# Altium schematic symbol library Library.SchLib: 691 symbols (part 9 of 11)
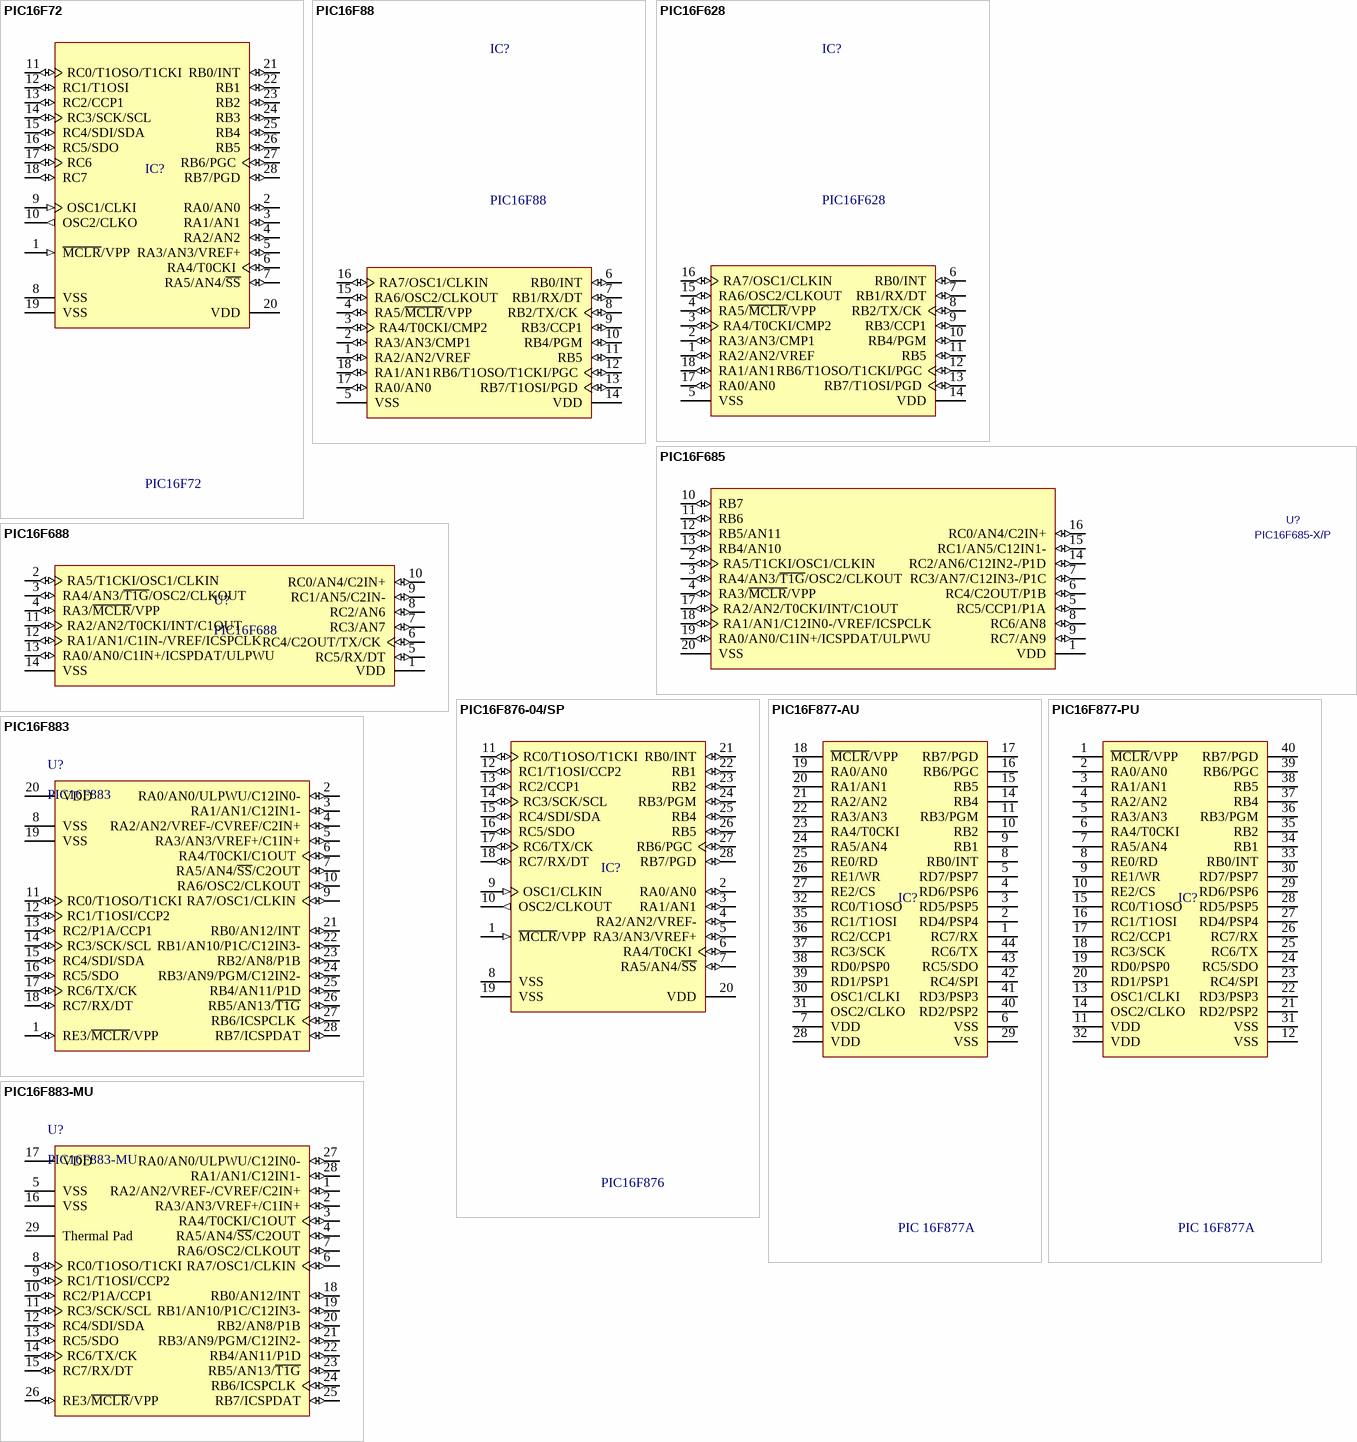
[diagram p54: symbols PIC16F72 to PIC16F883-MU]

## PIC16F883
designator U?
Flash-Based, 8-Bit CMOS Microcontroller with nanoWatt Technology, 4K (x14-Bit words) Program Memory, 512 Bytes Data Memory, 24 I/O pins, 28-Pin SOIC, Standard VDD Range, Extended Temperature; Published: 29-Jan-2009; LatestRevisionDate: 02-Dec-2009; LatestRevisionNote: Updated datasheet to version revF, Apr-2009.; DatasheetVersion: revF, Apr-2009; PackageVersion: revBB, Aug-2009; PackageReference: SOIC-SO28; Publisher: Altium Limited; PackageDescription: 28-Lead Plastic Small Outline (SO) - Wide 7.50mm Body [SOIC]; Supplier 1: Digi-Key; Supplier Part Number 1: PIC16F883-E/SO-ND; Code_JEDEC: MS-013; ComponentLink1Description: Datasheet; ComponentLink1URL: http://ww1.microchip.com/downloads/en/DeviceDoc/41291F.pdf; ComponentLink2Description: Packaging Specification; ComponentLink2URL: http://www.microchip.com/stellent/groups/techpub_sg/documents/packagingspec/en012702.pdf; ComponentLink3Description: Microchip.com Home; ComponentLink3URL: http://www.microchip.com/
footprint DIP28 (DIP, 18-Leads, Row Spacing 7.62mm, Pitch 2.54mm, Body 22.8x7.3mm, Window)
footprint SO28 (SOIC, 28-Leads, Body 18.00x7.50mm, Pitch 1.27mm, IPC Medium Density)
footprint TSSOP28 (TSSOP, 28-Leads, Body 10.20x5.30mm, Pitch 0.65mm, IPC High Density)
pins: 1 RE3/~{MCLR}/VPP (io), 2 RA0/AN0/ULPWU/C12IN0- (io), 3 RA1/AN1/C12IN1- (io), 4 RA2/AN2/VREF-/CVREF/C2IN+ (io), 5 RA3/AN3/VREF+/C1IN+ (io), 6 RA4/T0CKI/C1OUT (io), 7 RA5/AN4/~{SS}/C2OUT (io), 8 VSS (power), 9 RA7/OSC1/CLKIN (io), 10 RA6/OSC2/CLKOUT (io), 11 RC0/T1OSO/T1CKI (io), 12 RC1/T1OSI/CCP2 (io), 13 RC2/P1A/CCP1 (io), 14 RC3/SCK/SCL (io), 15 RC4/SDI/SDA (io), 16 RC5/SDO (io), 17 RC6/TX/CK (io), 18 RC7/RX/DT (io), 19 VSS (power), 20 VDD (power), 21 RB0/AN12/INT (io), 22 RB1/AN10/P1C/C12IN3- (io), 23 RB2/AN8/P1B (io), 24 RB3/AN9/PGM/C12IN2- (io), 25 RB4/AN11/P1D (io), 26 RB5/AN13/~{T1G} (io), 27 RB6/ICSPCLK (io), 28 RB7/ICSPDAT (io)

## PIC16F883-MU
designator U?
Flash-Based, 8-Bit CMOS Microcontroller with nanoWatt Technology, 4K (x14-Bit words) Program Memory, 512 Bytes Data Memory, 24 I/O pins, 28-Pin QFN, Standard VDD Range, Extended Temperature; Published: 29-Jan-2009; LatestRevisionDate: 02-Dec-2009; LatestRevisionNote: Updated datasheet to version revF, Apr-2009.; DatasheetVersion: revF, Apr-2009; PackageVersion: revBB, Aug-2009; PackageReference: QFN-ML28; Publisher: Altium Limited; PackageDescription: 28-Lead Plastic Quad Flat, No Lead Package (ML) - 6x6 mm Body [QFN] with 0.55 mm Contact Length; Supplier 1: Digi-Key; Supplier Part Number 1: PIC16F883-E/ML-ND; Code_JEDEC: MO-220; Code_IPC: QFN65P600X600-28V; ComponentLink1Description: Datasheet; ComponentLink1URL: http://ww1.microchip.com/downloads/en/DeviceDoc/41291F.pdf; ComponentLink2Description: Packaging Specification; ComponentLink2URL: http://www.microchip.com/stellent/groups/techpub_sg/documents/packagingspec/en012702.pdf; ComponentLink3Description: Microchip.com Home; ComponentLink3URL: http://www.microchip.com/
footprint QFN28 (QFN, 28-Leads, Body 5.75x5.75mm, Pitch 0.65mm, Thermal Pad 3.70x3.70mm, IPC Medium Density)
pins: 1 RA2/AN2/VREF-/CVREF/C2IN+ (io), 2 RA3/AN3/VREF+/C1IN+ (io), 3 RA4/T0CKI/C1OUT (io), 4 RA5/AN4/~{SS}/C2OUT (io), 5 VSS (power), 6 RA7/OSC1/CLKIN (io), 7 RA6/OSC2/CLKOUT (io), 8 RC0/T1OSO/T1CKI (io), 9 RC1/T1OSI/CCP2 (io), 10 RC2/P1A/CCP1 (io), 11 RC3/SCK/SCL (io), 12 RC4/SDI/SDA (io), 13 RC5/SDO (io), 14 RC6/TX/CK (io), 15 RC7/RX/DT (io), 16 VSS (power), 17 VDD (power), 18 RB0/AN12/INT (io), 19 RB1/AN10/P1C/C12IN3- (io), 20 RB2/AN8/P1B (io), 21 RB3/AN9/PGM/C12IN2- (io), 22 RB4/AN11/P1D (io), 23 RB5/AN13/~{T1G} (io), 24 RB6/ICSPCLK (io), 25 RB7/ICSPDAT (io), 26 RE3/~{MCLR}/VPP (io), 27 RA0/AN0/ULPWU/C12IN0- (io), 28 RA1/AN1/C12IN1- (io), 29 Thermal Pad

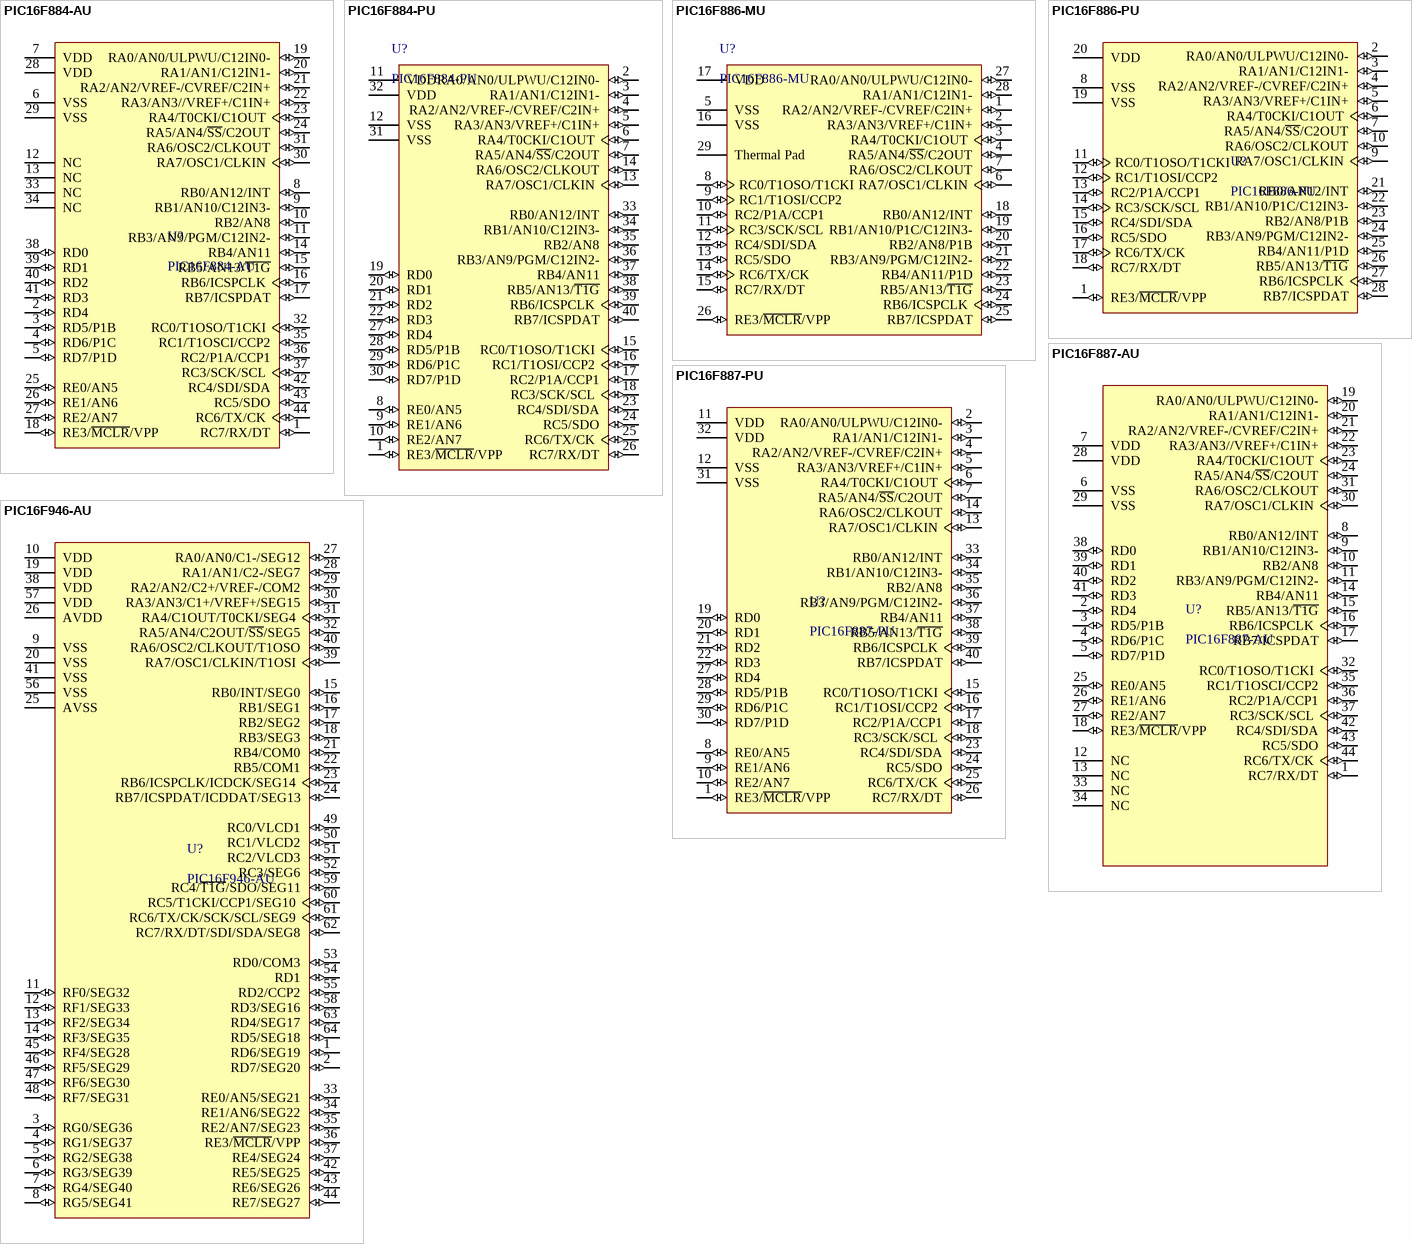
[diagram p37: symbols PIC16F884-AU to PIC16F946-AU]

## PIC16F884-AU
designator U?
Flash-Based, 8-Bit CMOS Microcontroller with nanoWatt Technology, 4K (x14-Bit words) Program Memory, 512 Bytes Data Memory, 35 I/O pins, 44-Pin TQFP, Standard VDD Range, Extended Temperature; Published: 29-Jan-2009; LatestRevisionDate: 02-Dec-2009; LatestRevisionNote: Updated datasheet to version revF, Apr-2009.; DatasheetVersion: revF, Apr-2009; PackageVersion: revBB, Aug-2009; PackageReference: TQFP-PT44; Publisher: Altium Limited; PackageDescription: 44-Lead Plastic Thin Quad Flatpack (PT) - 10x10x1mm Body, 2.00mm [TQFP]; Supplier 1: Digi-Key; Supplier Part Number 1: PIC16F884-E/PT-ND; Code_JEDEC: MS-026; ComponentLink1Description: Datasheet; ComponentLink1URL: http://ww1.microchip.com/downloads/en/DeviceDoc/41291F.pdf; ComponentLink2Description: Packaging Specification; ComponentLink2URL: http://www.microchip.com/stellent/groups/techpub_sg/documents/packagingspec/en012702.pdf; ComponentLink3Description: Microchip.com Home; ComponentLink3URL: http://www.microchip.com/
footprint TQFP44 (TQFP, 44-Leads, Body 10X10mm, Pitch 0.80mm, IPC High Density)
pins: 1 RC7/RX/DT (io), 2 RD4 (io), 3 RD5/P1B (io), 4 RD6/P1C (io), 5 RD7/P1D (io), 6 VSS (power), 7 VDD (power), 8 RB0/AN12/INT (io), 9 RB1/AN10/C12IN3- (io), 10 RB2/AN8 (io), 11 RB3/AN9/PGM/C12IN2- (io), 12 NC, 13 NC, 14 RB4/AN11 (io), 15 RB5/AN13/~{T1G} (io), 16 RB6/ICSPCLK (io), 17 RB7/ICSPDAT (io), 18 RE3/~{MCLR}/VPP (io), 19 RA0/AN0/ULPWU/C12IN0- (io), 20 RA1/AN1/C12IN1- (io), 21 RA2/AN2/VREF-/CVREF/C2IN+ (io), 22 RA3/AN3//VREF+/C1IN+ (io), 23 RA4/T0CKI/C1OUT (io), 24 RA5/AN4/~{SS}/C2OUT (io), 25 RE0/AN5 (io), 26 RE1/AN6 (io), 27 RE2/AN7 (io), 28 VDD (power), 29 VSS (power), 30 RA7/OSC1/CLKIN (io), 31 RA6/OSC2/CLKOUT (io), 32 RC0/T1OSO/T1CKI (io), 33 NC, 34 NC, 35 RC1/T1OSCI/CCP2 (io), 36 RC2/P1A/CCP1 (io), 37 RC3/SCK/SCL (io), 38 RD0 (io), 39 RD1 (io), 40 RD2 (io), 41 RD3 (io), 42 RC4/SDI/SDA (io), 43 RC5/SDO (io), 44 RC6/TX/CK (io)

## PIC16F884-PU
designator U?
Flash-Based, 8-Bit CMOS Microcontroller with nanoWatt Technology, 4K (x14-Bit words) Program Memory, 512 Bytes Data Memory, 35 I/O pins, 40-Pin PDIP, Standard VDD Range, Extended Temperature; Published: 29-Jan-2009; LatestRevisionDate: 02-Dec-2009; LatestRevisionNote: Updated datasheet to version revF, Apr-2009.; DatasheetVersion: revF, Apr-2009; PackageVersion: revBB, Aug-2009; PackageReference: PDIP600-P40; Publisher: Altium Limited; PackageDescription: 40-Lead Plastic Dual In-Line (P) - 600 mil Body [PDIP]; Supplier 1: Digi-Key; Supplier Part Number 1: PIC16F884-E/P-ND; ComponentLink1Description: Datasheet; ComponentLink1URL: http://ww1.microchip.com/downloads/en/DeviceDoc/41291F.pdf; ComponentLink2Description: Packaging Specification; ComponentLink2URL: http://www.microchip.com/stellent/groups/techpub_sg/documents/packagingspec/en012702.pdf; ComponentLink3Description: Microchip.com Home; ComponentLink3URL: http://www.microchip.com/
footprint DIP40_Socket (40 PIN, W 900 mil , L 2600 mil , Push Pro FOR Chip)
footprint DIP40/W0.6 (40 PIN, W 600mil, Pin to pin 100mil)
pins: 1 RE3/~{MCLR}/VPP (io), 2 RA0/AN0/ULPWU/C12IN0- (io), 3 RA1/AN1/C12IN1- (io), 4 RA2/AN2/VREF-/CVREF/C2IN+ (io), 5 RA3/AN3/VREF+/C1IN+ (io), 6 RA4/T0CKI/C1OUT (io), 7 RA5/AN4/~{SS}/C2OUT (io), 8 RE0/AN5 (io), 9 RE1/AN6 (io), 10 RE2/AN7 (io), 11 VDD (power), 12 VSS (power), 13 RA7/OSC1/CLKIN (io), 14 RA6/OSC2/CLKOUT (io), 15 RC0/T1OSO/T1CKI (io), 16 RC1/T1OSI/CCP2 (io), 17 RC2/P1A/CCP1 (io), 18 RC3/SCK/SCL (io), 19 RD0 (io), 20 RD1 (io), 21 RD2 (io), 22 RD3 (io), 23 RC4/SDI/SDA (io), 24 RC5/SDO (io), 25 RC6/TX/CK (io), 26 RC7/RX/DT (io), 27 RD4 (io), 28 RD5/P1B (io), 29 RD6/P1C (io), 30 RD7/P1D (io), 31 VSS (power), 32 VDD (power), 33 RB0/AN12/INT (io), 34 RB1/AN10/C12IN3- (io), 35 RB2/AN8 (io), 36 RB3/AN9/PGM/C12IN2- (io), 37 RB4/AN11 (io), 38 RB5/AN13/~{T1G} (io), 39 RB6/ICSPCLK (io), 40 RB7/ICSPDAT (io)

## PIC16F886-MU
designator U?
Flash-Based, 8-Bit CMOS Microcontroller with nanoWatt Technology, 8K (x14-Bit words) Program Memory, 624 Bytes Data Memory, 24 I/O pins, 28-Pin QFN, Standard VDD Range, Extended Temperature; Published: 29-Jan-2009; LatestRevisionDate: 02-Dec-2009; LatestRevisionNote: Updated datasheet to version revF, Apr-2009.; DatasheetVersion: revF, Apr-2009; PackageVersion: revBB, Aug-2009; PackageReference: QFN-ML28; Publisher: Altium Limited; PackageDescription: 28-Lead Plastic Quad Flat, No Lead Package (ML) - 6x6 mm Body [QFN] with 0.55 mm Contact Length; Supplier 1: Digi-Key; Supplier Part Number 1: PIC16F886-E/ML-ND; Supplier 2: Farnell; Supplier Part Number 2: 1816000; Code_JEDEC: MO-220; Code_IPC: QFN65P600X600-28V; ComponentLink1Description: Datasheet; ComponentLink1URL: http://ww1.microchip.com/downloads/en/DeviceDoc/41291F.pdf; ComponentLink2Description: Packaging Specification; ComponentLink2URL: http://www.microchip.com/stellent/groups/techpub_sg/documents/packagingspec/en012702.pdf; ComponentLink3Description: Microchip.com Home; ComponentLink3URL: http://www.microchip.com/
footprint QFN28 (QFN, 28-Leads, Body 5.75x5.75mm, Pitch 0.65mm, Thermal Pad 3.70x3.70mm, IPC Medium Density)
pins: 1 RA2/AN2/VREF-/CVREF/C2IN+ (io), 2 RA3/AN3/VREF+/C1IN+ (io), 3 RA4/T0CKI/C1OUT (io), 4 RA5/AN4/~{SS}/C2OUT (io), 5 VSS (power), 6 RA7/OSC1/CLKIN (io), 7 RA6/OSC2/CLKOUT (io), 8 RC0/T1OSO/T1CKI (io), 9 RC1/T1OSI/CCP2 (io), 10 RC2/P1A/CCP1 (io), 11 RC3/SCK/SCL (io), 12 RC4/SDI/SDA (io), 13 RC5/SDO (io), 14 RC6/TX/CK (io), 15 RC7/RX/DT (io), 16 VSS (power), 17 VDD (power), 18 RB0/AN12/INT (io), 19 RB1/AN10/P1C/C12IN3- (io), 20 RB2/AN8/P1B (io), 21 RB3/AN9/PGM/C12IN2- (io), 22 RB4/AN11/P1D (io), 23 RB5/AN13/~{T1G} (io), 24 RB6/ICSPCLK (io), 25 RB7/ICSPDAT (io), 26 RE3/~{MCLR}/VPP (io), 27 RA0/AN0/ULPWU/C12IN0- (io), 28 RA1/AN1/C12IN1- (io), 29 Thermal Pad

## PIC16F886-PU
designator U?
Flash-Based, 8-Bit CMOS Microcontroller with nanoWatt Technology, 8K (x14-Bit words) Program Memory, 624 Bytes Data Memory, 24 I/O pins, 28-Pin SPDIP, Standard VDD Range, Extended Temperature; Published: 29-Jan-2009; LatestRevisionDate: 02-Dec-2009; LatestRevisionNote: Updated datasheet to version revF, Apr-2009.; DatasheetVersion: revF, Apr-2009; PackageVersion: revBB, Aug-2009; PackageReference: SPDIP300-SP28; Publisher: Altium Limited; PackageDescription: 28-Lead Skinny Plastic Dual In-Line (SP) - 300 mil Body [SPDIP]; Supplier 1: Digi-Key; Supplier Part Number 1: PIC16F886-E/SP-ND; Supplier 2: Farnell; Supplier Part Number 2: 1579590; ComponentLink1Description: Datasheet; ComponentLink1URL: http://ww1.microchip.com/downloads/en/DeviceDoc/41291F.pdf; ComponentLink2Description: Packaging Specification; ComponentLink2URL: http://www.microchip.com/stellent/groups/techpub_sg/documents/packagingspec/en012702.pdf; ComponentLink3Description: Microchip.com Home; ComponentLink3URL: http://www.microchip.com/
footprint DIP28 (28 PIN, W 300mil, Pin to pin 100mil)
footprint SO28 (SOIC, 28-Leads, Body 18.00x7.50mm, Pitch 1.27mm, IPC Medium Density)
footprint TSSOP28 (TSSOP, 28-Leads, Body 10.20x5.30mm, Pitch 0.65mm, IPC High Density)
pins: 1 RE3/~{MCLR}/VPP (io), 2 RA0/AN0/ULPWU/C12IN0- (io), 3 RA1/AN1/C12IN1- (io), 4 RA2/AN2/VREF-/CVREF/C2IN+ (io), 5 RA3/AN3/VREF+/C1IN+ (io), 6 RA4/T0CKI/C1OUT (io), 7 RA5/AN4/~{SS}/C2OUT (io), 8 VSS (power), 9 RA7/OSC1/CLKIN (io), 10 RA6/OSC2/CLKOUT (io), 11 RC0/T1OSO/T1CKI (io), 12 RC1/T1OSI/CCP2 (io), 13 RC2/P1A/CCP1 (io), 14 RC3/SCK/SCL (io), 15 RC4/SDI/SDA (io), 16 RC5/SDO (io), 17 RC6/TX/CK (io), 18 RC7/RX/DT (io), 19 VSS (power), 20 VDD (power), 21 RB0/AN12/INT (io), 22 RB1/AN10/P1C/C12IN3- (io), 23 RB2/AN8/P1B (io), 24 RB3/AN9/PGM/C12IN2- (io), 25 RB4/AN11/P1D (io), 26 RB5/AN13/~{T1G} (io), 27 RB6/ICSPCLK (io), 28 RB7/ICSPDAT (io)

## PIC16F887-AU
designator U?
Flash-Based, 8-Bit CMOS Microcontroller with nanoWatt Technology, 8K (x14-Bit words) Program Memory, 624 Bytes Data Memory, 35 I/O pins, 44-Pin TQFP, Standard VDD Range, Extended Temperature; Published: 29-Jan-2009; LatestRevisionDate: 02-Dec-2009; LatestRevisionNote: Updated datasheet to version revF, Apr-2009.; DatasheetVersion: revF, Apr-2009; PackageVersion: revBB, Aug-2009; PackageReference: TQFP-PT44; Publisher: Altium Limited; PackageDescription: 44-Lead Plastic Thin Quad Flatpack (PT) - 10x10x1mm Body, 2.00mm [TQFP]; Supplier 1: Digi-Key; Supplier Part Number 1: PIC16F887-E/PT-ND; Supplier 2: Farnell; Supplier Part Number 2: 1579592; Code_JEDEC: MS-026; ComponentLink1Description: Datasheet; ComponentLink1URL: http://ww1.microchip.com/downloads/en/DeviceDoc/41291F.pdf; ComponentLink2Description: Packaging Specification; ComponentLink2URL: http://www.microchip.com/stellent/groups/techpub_sg/documents/packagingspec/en012702.pdf; ComponentLink3Description: Microchip.com Home; ComponentLink3URL: http://www.microchip.com/
footprint TQFP44 (TQFP, 44-Leads, Body 12X12mm, Pitch 0.80mm, IPC High Density)
pins: 1 RC7/RX/DT (io), 2 RD4 (io), 3 RD5/P1B (io), 4 RD6/P1C (io), 5 RD7/P1D (io), 6 VSS (power), 7 VDD (power), 8 RB0/AN12/INT (io), 9 RB1/AN10/C12IN3- (io), 10 RB2/AN8 (io), 11 RB3/AN9/PGM/C12IN2- (io), 12 NC, 13 NC, 14 RB4/AN11 (io), 15 RB5/AN13/~{T1G} (io), 16 RB6/ICSPCLK (io), 17 RB7/ICSPDAT (io), 18 RE3/~{MCLR}/VPP (io), 19 RA0/AN0/ULPWU/C12IN0- (io), 20 RA1/AN1/C12IN1- (io), 21 RA2/AN2/VREF-/CVREF/C2IN+ (io), 22 RA3/AN3//VREF+/C1IN+ (io), 23 RA4/T0CKI/C1OUT (io), 24 RA5/AN4/~{SS}/C2OUT (io), 25 RE0/AN5 (io), 26 RE1/AN6 (io), 27 RE2/AN7 (io), 28 VDD (power), 29 VSS (power), 30 RA7/OSC1/CLKIN (io), 31 RA6/OSC2/CLKOUT (io), 32 RC0/T1OSO/T1CKI (io), 33 NC, 34 NC, 35 RC1/T1OSCI/CCP2 (io), 36 RC2/P1A/CCP1 (io), 37 RC3/SCK/SCL (io), 38 RD0 (io), 39 RD1 (io), 40 RD2 (io), 41 RD3 (io), 42 RC4/SDI/SDA (io), 43 RC5/SDO (io), 44 RC6/TX/CK (io)

## PIC16F887-PU
designator U?
Flash-Based, 8-Bit CMOS Microcontroller with nanoWatt Technology, 8K (x14-Bit words) Program Memory, 624 Bytes Data Memory, 35 I/O pins, 40-Pin PDIP, Standard VDD Range, Extended Temperature; Published: 29-Jan-2009; LatestRevisionDate: 02-Dec-2009; LatestRevisionNote: Updated datasheet to version revF, Apr-2009.; DatasheetVersion: revF, Apr-2009; PackageVersion: revBB, Aug-2009; PackageReference: PDIP600-P40; Publisher: Altium Limited; PackageDescription: 40-Lead Plastic Dual In-Line (P) - 600 mil Body [PDIP]; Supplier 1: Digi-Key; Supplier Part Number 1: PIC16F887-E/P-ND; Supplier 2: Farnell; Supplier Part Number 2: 1703423; ComponentLink1Description: Datasheet; ComponentLink1URL: http://ww1.microchip.com/downloads/en/DeviceDoc/41291F.pdf; ComponentLink2Description: Packaging Specification; ComponentLink2URL: http://www.microchip.com/stellent/groups/techpub_sg/documents/packagingspec/en012702.pdf; ComponentLink3Description: Microchip.com Home; ComponentLink3URL: http://www.microchip.com/
footprint DIP40/W0.6 (40 PIN, W 600mil, Pin to pin 100mil)
footprint DIP40_Socket (40 PIN, W 900 mil , L 2600 mil , Push Pro FOR Chip)
pins: 1 RE3/~{MCLR}/VPP (io), 2 RA0/AN0/ULPWU/C12IN0- (io), 3 RA1/AN1/C12IN1- (io), 4 RA2/AN2/VREF-/CVREF/C2IN+ (io), 5 RA3/AN3/VREF+/C1IN+ (io), 6 RA4/T0CKI/C1OUT (io), 7 RA5/AN4/~{SS}/C2OUT (io), 8 RE0/AN5 (io), 9 RE1/AN6 (io), 10 RE2/AN7 (io), 11 VDD (power), 12 VSS (power), 13 RA7/OSC1/CLKIN (io), 14 RA6/OSC2/CLKOUT (io), 15 RC0/T1OSO/T1CKI (io), 16 RC1/T1OSI/CCP2 (io), 17 RC2/P1A/CCP1 (io), 18 RC3/SCK/SCL (io), 19 RD0 (io), 20 RD1 (io), 21 RD2 (io), 22 RD3 (io), 23 RC4/SDI/SDA (io), 24 RC5/SDO (io), 25 RC6/TX/CK (io), 26 RC7/RX/DT (io), 27 RD4 (io), 28 RD5/P1B (io), 29 RD6/P1C (io), 30 RD7/P1D (io), 31 VSS (power), 32 VDD (power), 33 RB0/AN12/INT (io), 34 RB1/AN10/C12IN3- (io), 35 RB2/AN8 (io), 36 RB3/AN9/PGM/C12IN2- (io), 37 RB4/AN11 (io), 38 RB5/AN13/~{T1G} (io), 39 RB6/ICSPCLK (io), 40 RB7/ICSPDAT (io)

## PIC16F946-AU
designator U?
Flash-Based, 8-Bit CMOS Microcontroller with LCD Driver and nanoWatt Technology, 8K (x14-Bit words) Program Memory, 592 Bytes Data Memory, 53 I/O pins, 64-Pin TQFP, Standard VDD Range, Industrial Temperature; Published: 29-Jan-2009; DatasheetVersion: revF, May-2007; PackageVersion: revBB, Aug-2009; PackageReference: TQFP-PT64; Publisher: Altium Limited; PackageDescription: 64-Lead Thin Plastic Quad Flat Pack (PT) - 10x10x1mm Body, 2.00mm [TQFP]; Supplier 1: Digi-Key; Supplier Part Number 1: PIC16F946-I/PT-ND; Supplier 2: Farnell; Supplier Part Number 2: 1332219; Code_JEDEC: MS-026; ComponentLink1Description: Datasheet; ComponentLink1URL: http://ww1.microchip.com/downloads/en/DeviceDoc/41250F.pdf; ComponentLink2Description: Packaging Specification; ComponentLink2URL: http://www.microchip.com/stellent/groups/techpub_sg/documents/packagingspec/en012702.pdf; ComponentLink3Description: Microchip.com Home; ComponentLink3URL: http://www.microchip.com/
footprint TQFP64 (TQFP, 64-Leads, Body 10.00x10.00mm, Pitch 0.50mm, IPC High Density)
pins: 1 RD6/SEG19 (io), 2 RD7/SEG20 (io), 3 RG0/SEG36 (io), 4 RG1/SEG37 (io), 5 RG2/SEG38 (io), 6 RG3/SEG39 (io), 7 RG4/SEG40 (io), 8 RG5/SEG41 (io), 9 VSS (power), 10 VDD (power), 11 RF0/SEG32 (io), 12 RF1/SEG33 (io), 13 RF2/SEG34 (io), 14 RF3/SEG35 (io), 15 RB0/INT/SEG0 (io), 16 RB1/SEG1 (io), 17 RB2/SEG2 (io), 18 RB3/SEG3 (io), 19 VDD (power), 20 VSS (power), 21 RB4/COM0 (io), 22 RB5/COM1 (io), 23 RB6/ICSPCLK/ICDCK/SEG14 (io), 24 RB7/ICSPDAT/ICDDAT/SEG13 (io), 25 AVSS (power), 26 AVDD (power), 27 RA0/AN0/C1-/SEG12 (io), 28 RA1/AN1/C2-/SEG7 (io), 29 RA2/AN2/C2+/VREF-/COM2 (io), 30 RA3/AN3/C1+/VREF+/SEG15 (io), 31 RA4/C1OUT/T0CKI/SEG4 (io), 32 RA5/AN4/C2OUT/~{SS}/SEG5 (io), 33 RE0/AN5/SEG21 (io), 34 RE1/AN6/SEG22 (io), 35 RE2/AN7/SEG23 (io), 36 RE3/~{MCLR}/VPP (io), 37 RE4/SEG24 (io), 38 VDD (power), 39 RA7/OSC1/CLKIN/T1OSI (io), 40 RA6/OSC2/CLKOUT/T1OSO (io), 41 VSS (power), 42 RE5/SEG25 (io), 43 RE6/SEG26 (io), 44 RE7/SEG27 (io), 45 RF4/SEG28 (io), 46 RF5/SEG29 (io), 47 RF6/SEG30 (io), 48 RF7/SEG31 (io), 49 RC0/VLCD1 (io), 50 RC1/VLCD2 (io), 51 RC2/VLCD3 (io), 52 RC3/SEG6 (io), 53 RD0/COM3 (io), 54 RD1 (io), 55 RD2/CCP2 (io), 56 VSS (power), 57 VDD (power), 58 RD3/SEG16 (io), 59 RC4/~{T1G}/SDO/SEG11 (io), 60 RC5/T1CKI/CCP1/SEG10 (io), 61 RC6/TX/CK/SCK/SCL/SEG9 (io), 62 RC7/RX/DT/SDI/SDA/SEG8 (io), 63 RD4/SEG17 (io), 64 RD5/SEG18 (io)

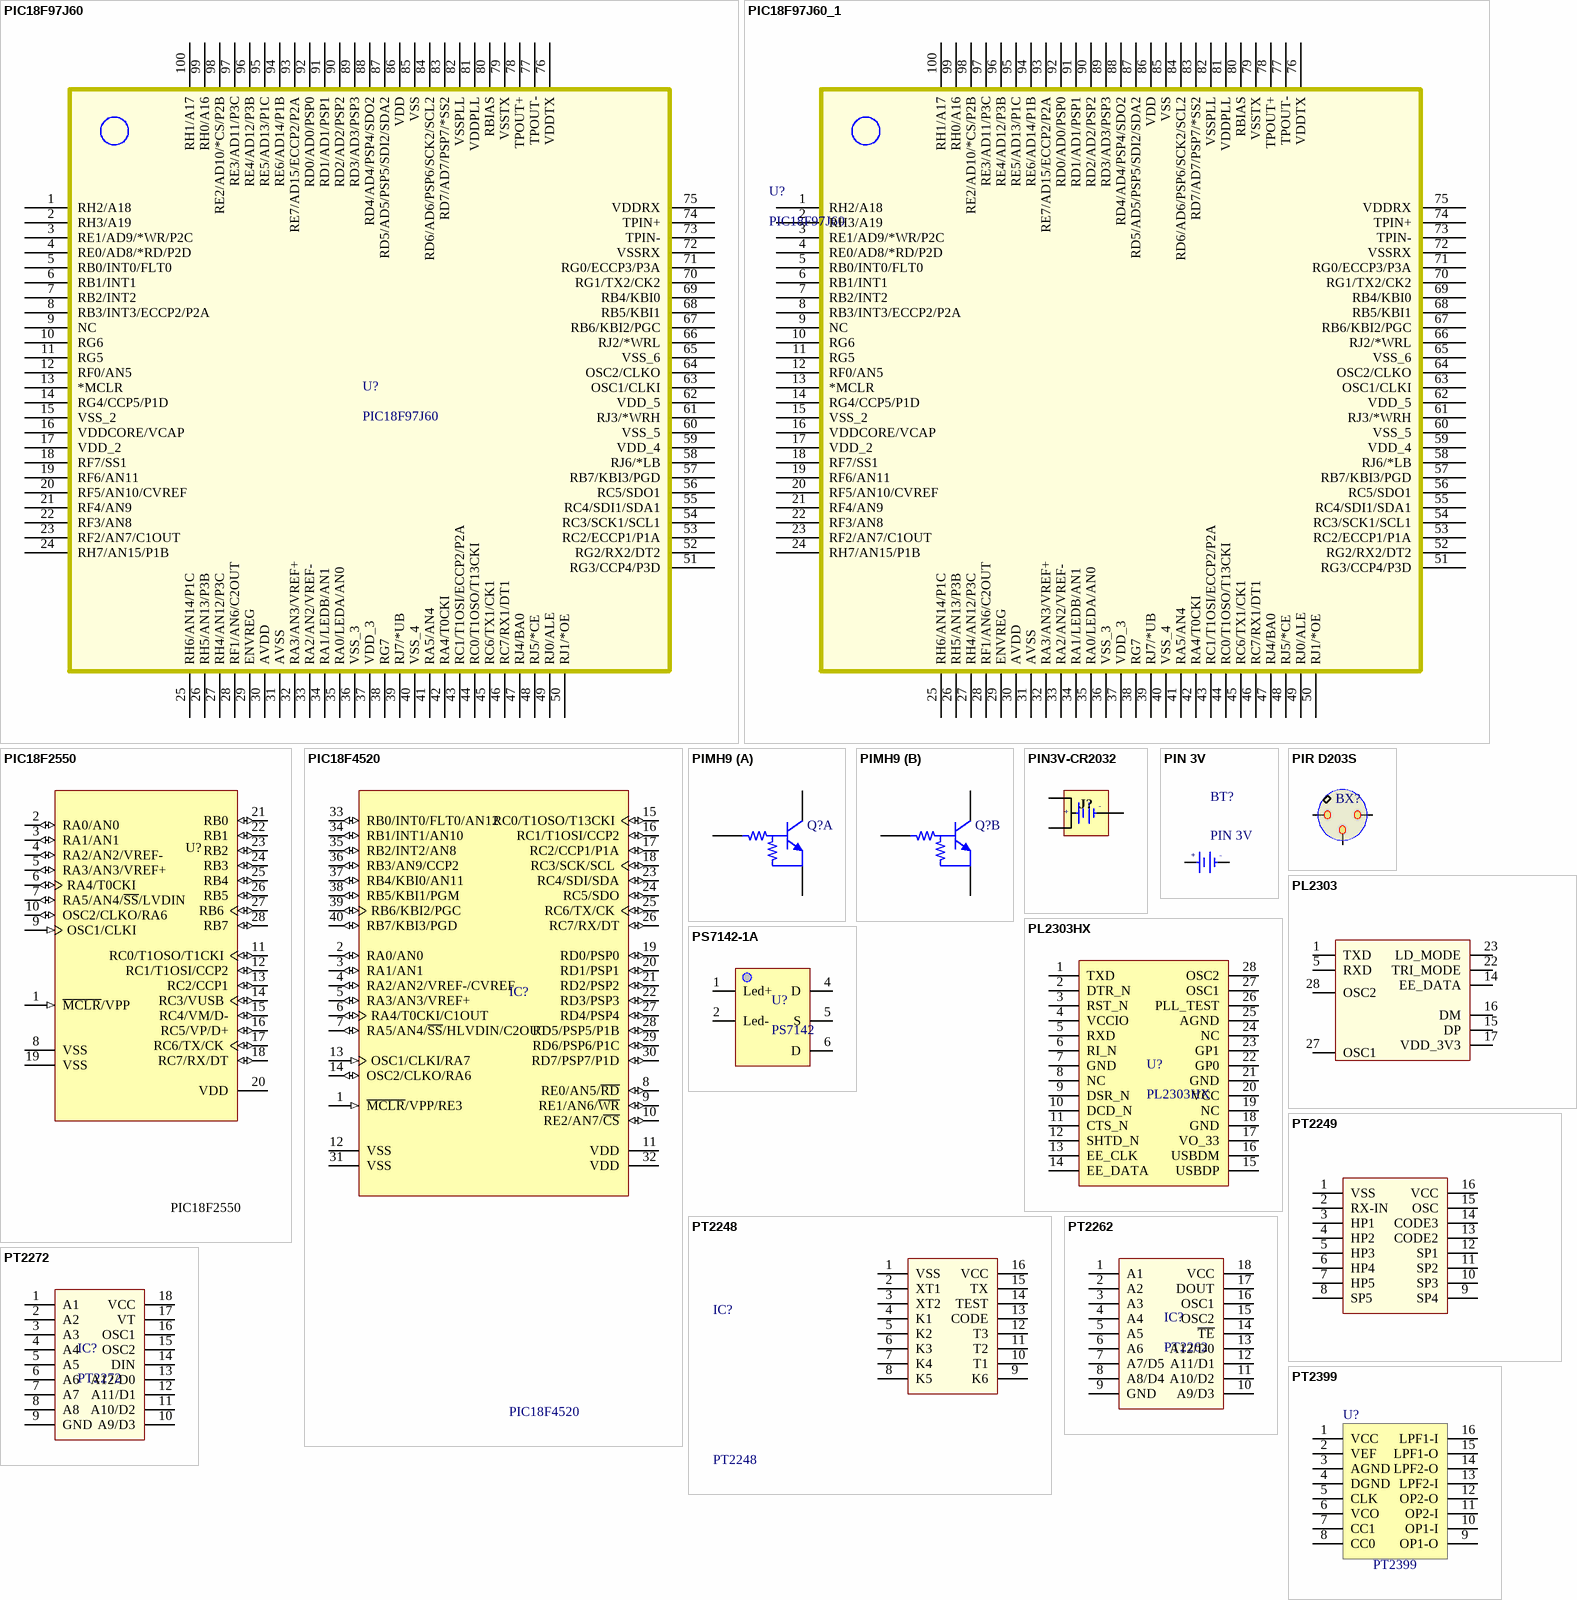
[diagram p38: symbols PIC18F97J60 to PT2399]

## PIC18F97J60
designator U?
High-Performance,  1-Mbit Flash Microcontrollers  with Ethernet
footprint TQFP100L (TQFP, 100-Leads, Body 14.00x14.00mm, Pitch 0.50mm, IPC High Density)
pins: 1 RH2/A18, 2 RH3/A19, 3 RE1/AD9/*WR/P2C, 4 RE0/AD8/*RD/P2D, 5 RB0/INT0/FLT0, 6 RB1/INT1, 7 RB2/INT2, 8 RB3/INT3/ECCP2/P2A, 9 NC, 10 RG6, 11 RG5, 12 RF0/AN5, 13 *MCLR, 14 RG4/CCP5/P1D, 15 VSS_2, 16 VDDCORE/VCAP, 17 VDD_2, 18 RF7/SS1, 19 RF6/AN11, 20 RF5/AN10/CVREF, 21 RF4/AN9, 22 RF3/AN8, 23 RF2/AN7/C1OUT, 24 RH7/AN15/P1B, 25 RH6/AN14/P1C, 26 RH5/AN13/P3B, 27 RH4/AN12/P3C, 28 RF1/AN6/C2OUT, 29 ENVREG, 30 AVDD, 31 AVSS, 32 RA3/AN3/VREF+, 33 RA2/AN2/VREF-, 34 RA1/LEDB/AN1, 35 RA0/LEDA/AN0, 36 VSS_3, 37 VDD_3, 38 RG7, 39 RJ7/*UB, 40 VSS_4, 41 RA5/AN4, 42 RA4/T0CKI, 43 RC1/T1OSI/ECCP2/P2A, 44 RC0/T1OSO/T13CKI, 45 RC6/TX1/CK1, 46 RC7/RX1/DT1, 47 RJ4/BA0, 48 RJ5/*CE, 49 RJ0/ALE, 50 RJ1/*OE, 51 RG3/CCP4/P3D, 52 RG2/RX2/DT2, 53 RC2/ECCP1/P1A, 54 RC3/SCK1/SCL1, 55 RC4/SDI1/SDA1, 56 RC5/SDO1, 57 RB7/KBI3/PGD, 58 RJ6/*LB, 59 VDD_4, 60 VSS_5, 61 RJ3/*WRH, 62 VDD_5, 63 OSC1/CLKI, 64 OSC2/CLKO, 65 VSS_6, 66 RJ2/*WRL, 67 RB6/KBI2/PGC, 68 RB5/KBI1, 69 RB4/KBI0, 70 RG1/TX2/CK2, 71 RG0/ECCP3/P3A, 72 VSSRX, 73 TPIN-, 74 TPIN+, 75 VDDRX, 76 VDDTX, 77 TPOUT-, 78 TPOUT+, 79 VSSTX, 80 RBIAS, 81 VDDPLL, 82 VSSPLL, 83 RD7/AD7/PSP7/*SS2, 84 RD6/AD6/PSP6/SCK2/SCL2, 85 VSS, 86 VDD, 87 RD5/AD5/PSP5/SDI2/SDA2, 88 RD4/AD4/PSP4/SDO2, 89 RD3/AD3/PSP3, 90 RD2/AD2/PSP2, 91 RD1/AD1/PSP1, 92 RD0/AD0/PSP0, 93 RE7/AD15/ECCP2/P2A, 94 RE6/AD14/P1B, 95 RE5/AD13/P1C, 96 RE4/AD12/P3B, 97 RE3/AD11/P3C, 98 RE2/AD10/*CS/P2B, 99 RH0/A16, 100 RH1/A17

## PIC18F97J60_1
designator U?, comment PIC18F97J60
High-Performance,  1-Mbit Flash Microcontrollers  with Ethernet
footprint TQFP100 (TQFP, 100-Leads, Body 12.00x12.00mm, Pitch 0.40mm, IPC High Density)
pins: 1 RH2/A18, 2 RH3/A19, 3 RE1/AD9/*WR/P2C, 4 RE0/AD8/*RD/P2D, 5 RB0/INT0/FLT0, 6 RB1/INT1, 7 RB2/INT2, 8 RB3/INT3/ECCP2/P2A, 9 NC, 10 RG6, 11 RG5, 12 RF0/AN5, 13 *MCLR, 14 RG4/CCP5/P1D, 15 VSS_2, 16 VDDCORE/VCAP, 17 VDD_2, 18 RF7/SS1, 19 RF6/AN11, 20 RF5/AN10/CVREF, 21 RF4/AN9, 22 RF3/AN8, 23 RF2/AN7/C1OUT, 24 RH7/AN15/P1B, 25 RH6/AN14/P1C, 26 RH5/AN13/P3B, 27 RH4/AN12/P3C, 28 RF1/AN6/C2OUT, 29 ENVREG, 30 AVDD, 31 AVSS, 32 RA3/AN3/VREF+, 33 RA2/AN2/VREF-, 34 RA1/LEDB/AN1, 35 RA0/LEDA/AN0, 36 VSS_3, 37 VDD_3, 38 RG7, 39 RJ7/*UB, 40 VSS_4, 41 RA5/AN4, 42 RA4/T0CKI, 43 RC1/T1OSI/ECCP2/P2A, 44 RC0/T1OSO/T13CKI, 45 RC6/TX1/CK1, 46 RC7/RX1/DT1, 47 RJ4/BA0, 48 RJ5/*CE, 49 RJ0/ALE, 50 RJ1/*OE, 51 RG3/CCP4/P3D, 52 RG2/RX2/DT2, 53 RC2/ECCP1/P1A, 54 RC3/SCK1/SCL1, 55 RC4/SDI1/SDA1, 56 RC5/SDO1, 57 RB7/KBI3/PGD, 58 RJ6/*LB, 59 VDD_4, 60 VSS_5, 61 RJ3/*WRH, 62 VDD_5, 63 OSC1/CLKI, 64 OSC2/CLKO, 65 VSS_6, 66 RJ2/*WRL, 67 RB6/KBI2/PGC, 68 RB5/KBI1, 69 RB4/KBI0, 70 RG1/TX2/CK2, 71 RG0/ECCP3/P3A, 72 VSSRX, 73 TPIN-, 74 TPIN+, 75 VDDRX, 76 VDDTX, 77 TPOUT-, 78 TPOUT+, 79 VSSTX, 80 RBIAS, 81 VDDPLL, 82 VSSPLL, 83 RD7/AD7/PSP7/*SS2, 84 RD6/AD6/PSP6/SCK2/SCL2, 85 VSS, 86 VDD, 87 RD5/AD5/PSP5/SDI2/SDA2, 88 RD4/AD4/PSP4/SDO2, 89 RD3/AD3/PSP3, 90 RD2/AD2/PSP2, 91 RD1/AD1/PSP1, 92 RD0/AD0/PSP0, 93 RE7/AD15/ECCP2/P2A, 94 RE6/AD14/P1B, 95 RE5/AD13/P1C, 96 RE4/AD12/P3B, 97 RE3/AD11/P3C, 98 RE2/AD10/*CS/P2B, 99 RH0/A16, 100 RH1/A17

## PIC18F2550
designator U?
footprint SO28 (SOIC, 28-Leads, Body 18.00x7.50mm, Pitch 1.27mm, IPC Medium Density)
footprint DIP28 (28 PIN, W 300mil, Pin to pin 100mil)
pins: 1 ~{MCLR}/VPP (in), 2 RA0/AN0 (io), 3 RA1/AN1 (io), 4 RA2/AN2/VREF- (io), 5 RA3/AN3/VREF+ (io), 6 RA4/T0CKI (io), 7 RA5/AN4/~{SS}/LVDIN (io), 8 VSS (power), 9 OSC1/CLKI (in), 10 OSC2/CLKO/RA6 (io), 11 RC0/T1OSO/T1CKI (io), 12 RC1/T1OSI/CCP2 (io), 13 RC2/CCP1 (io), 14 RC3/VUSB (io), 15 RC4/VM/D- (io), 16 RC5/VP/D+ (io), 17 RC6/TX/CK (io), 18 RC7/RX/DT (io), 19 VSS (power), 20 VDD (power), 21 RB0 (io), 22 RB1 (io), 23 RB2 (io), 24 RB3 (io), 25 RB4 (io), 26 RB5 (io), 27 RB6 (io), 28 RB7 (io)

## PIC18F4520
designator IC?
32KB Flash, 1536B RAM, 256B EFROM, 40-Pin PDIP; Value: DIP 40; Value: 18F4520; Copyright by: VanDungEvn
footprint DIP40/W0.6 (40 PIN, W 600mil, Pin to pin 100mil)
footprint DIP40_Socket (40 PIN, W 900 mil , L 2600 mil , Push Pro FOR Chip)
pins: 1 ~{MCLR}/VPP/RE3 (in), 2 RA0/AN0 (io), 3 RA1/AN1 (io), 4 RA2/AN2/VREF-/CVREF (io), 5 RA3/AN3/VREF+ (io), 6 RA4/T0CKI/C1OUT (io), 7 RA5/AN4/~{SS}/HLVDIN/C2OUT (io), 8 RE0/AN5/~{RD} (io), 9 RE1/AN6/~{WR} (io), 10 RE2/AN7/~{CS} (io), 11 VDD (power), 12 VSS (power), 13 OSC1/CLKI/RA7 (in), 14 OSC2/CLKO/RA6 (io), 15 RC0/T1OSO/T13CKI (io), 16 RC1/T1OSI/CCP2 (io), 17 RC2/CCP1/P1A (io), 18 RC3/SCK/SCL (io), 19 RD0/PSP0 (io), 20 RD1/PSP1 (io), 21 RD2/PSP2 (io), 22 RD3/PSP3 (io), 23 RC4/SDI/SDA (io), 24 RC5/SDO (io), 25 RC6/TX/CK (io), 26 RC7/RX/DT (io), 27 RD4/PSP4 (io), 28 RD5/PSP5/P1B (io), 29 RD6/PSP6/P1C (io), 30 RD7/PSP7/P1D (io), 31 VSS (power), 32 VDD (power), 33 RB0/INT0/FLT0/AN12 (io), 34 RB1/INT1/AN10 (io), 35 RB2/INT2/AN8 (io), 36 RB3/AN9/CCP2 (io), 37 RB4/KBI0/AN11 (io), 38 RB5/KBI1/PGM (io), 39 RB6/KBI2/PGC (io), 40 RB7/KBI3/PGD (io)

## PIMH9
designator Q?
NPN Resistor-equipped Double Transistor; R1 = 10kOhm, R2 = 47kOhm; Published: 17-Sep-2003; LatestRevisionDate: 12-Dec-2006; LatestRevisionNote: IPC-7351 Footprint Added.; DatasheetVersion: 13-Sep-2001; PackageVersion: May-2001; PackageReference: SOT457; Publisher: Altium Limited; PackageDescription: 6-Pin SOT-23 Package 0.95 mm Pitch, 2.8 mm Lead Span; Code_JEITA: SC-95; Code_IPC: SOT26A-6; ComponentLink1Description: Manufacturer Link; ComponentLink1URL: http://www.semiconductors.philips.com/; ComponentLink2Description: Datasheet; ComponentLink2URL: http://www.semiconductors.philips.com/acrobat/datasheets/PIMH9_PUMH9_PEMH9_4.pdf
footprint SOT457 (SOT23, 6-Leads, Body 2.9x1.5mm, Pitch 0.95mm, Lead Span 2.8mm, IPC High Density)
part A pins: 1 E, 2 B, 6 C
part B pins: 3 C, 4 E, 5 B

## PIN3V-CR2032
designator J?
Coin Cell Holder, 21.08 x 15.24 mm SMD; Manufacturer: Memory Protection Devices; PartNumber: BK-912-TR; Battery Series: 2032; Battery Type, Function: Coin Cell, Retainer; Number of Cells: 1; ComponentLink2URL: http://www.memoryprotectiondevices.com/datasheets/BK-912-datasheet.pdf; ComponentLink3URL: http://www.memoryprotectiondevices.com/datasheets/BK-912-datasheet.pdf; ComponentLink3Description: Package Specification; ComponentLink1Description: Manufacturer URL; Family: Battery Holders, Clips, Contacts; ComponentLink1URL: http://www.memoryprotectiondevices.com/; Mounting Technology: Surface Mount; ComponentLink2Description: Datasheet; PackageReference: CN-DIN-3; PackageDescription: 3-Pin, CN-DIN, Body 21.08x15.24mm; Category: Battery Products
footprint PIN3V - CR2032 (CN-DIN, 3-Leads, Body 21.08x15.24mm)
pins: 1, 2, 3
text: -; +

## PIN 3V
designator BT?
Battery 3VDC; Value: PIN 3V
footprint PIN3V (Socket PIN 3V)
footprint PIN CR1220-DIP
footprint PIN CR1220-SMD
pins: 1 +3V, 2 GND
text: +; -

## PIR D203S
designator BX?
footprint BXR315A (Xtal for RF)
pins: 1 D, 2, 3

## PL2303
designator IC?
USB - RS232 Converter; Value: PL2303
footprint TSSOP28 (TSSOP, 28-Leads, Body 10.20x5.30mm, Pitch 0.65mm, IPC High Density)
pins: 1 TXD, 2 DTR_N hidden, 3 RTS_N hidden, 4 VDD_232 hidden to VCC, 5 RXD, 6 RI_N hidden to GND, 7 GND hidden to GND, 8 VDD hidden to VCC, 9 DSR_N hidden to GND, 10 DCD_N hidden to GND, 11 CTS_N hidden to VCC, 12 SHTD_N hidden, 13 EE_CLK hidden, 14 EE_DATA, 15 DP, 16 DM, 17 VDD_3V3, 18 GND_3V3 hidden to GND, 19 RESET hidden to VCC, 20 VDD hidden to VCC, 21 GND hidden to GND, 22 TRI_MODE, 23 LD_MODE, 24 VDD_PLL hidden to VCC, 25 GND_PLL hidden to GND, 26 PLL_TEST hidden to GND, 27 OSC1, 28 OSC2

## PL2303HX
designator U?
PL-2303 USB to RS-232 Bridge Controller; Creator: Nguyen Ba Bien; Date Created: 15/04/2010; Footprint: SSOP28/TQFP32
footprint TSSOP28 (TSSOP, 28-Leads, Body 10.20x5.30mm, Pitch 0.65mm, IPC High Density)
pins: 1 TXD, 2 DTR_N, 3 RST_N, 4 VCCIO, 5 RXD, 6 RI_N, 7 GND, 8 NC, 9 DSR_N, 10 DCD_N, 11 CTS_N, 12 SHTD_N, 13 EE_CLK, 14 EE_DATA, 15 USBDP, 16 USBDM, 17 VO_33, 18 GND, 19 NC, 20 VCC, 21 GND, 22 GP0, 23 GP1, 24 NC, 25 AGND, 26 PLL_TEST, 27 OSC1, 28 OSC2

## PS7142-1A
designator U?, comment PS7142
footprint DIP6
pins: 1 Led+, 2 Led-, 3 NC hidden, 4 D, 5 S, 6 D

## PT2248
designator IC?
Remote Control Tranmitter; Value: PT2248
footprint DIP16
footprint SO16L (SOIC, 16-Leads, Body 10.30x7.50mm, Pitch 1.27mm, IPC Medium Density)
pins: 1 VSS, 2 XT1, 3 XT2, 4 K1, 5 K2, 6 K3, 7 K4, 8 K5, 9 K6, 10 T1, 11 T2, 12 T3, 13 CODE, 14 TEST, 15 TX, 16 VCC

## PT2249
designator IC?
Remote Control Receiver; Value: PT2249
footprint DIP16
footprint SO16L (SOIC, 16-Leads, Body 10.30x7.50mm, Pitch 1.27mm, IPC Medium Density)
pins: 1 VSS, 2 RX-IN, 3 HP1, 4 HP2, 5 HP3, 6 HP4, 7 HP5, 8 SP5, 9 SP4, 10 SP3, 11 SP2, 12 SP1, 13 CODE2, 14 CODE3, 15 OSC, 16 VCC

## PT2262
designator IC?
Remote Control Encoder
footprint DIP18 (DIP; 18 Leads; Row Spacing 7.62 mm; Pitch 2.54 mm)
footprint SO18 (SOIC, 18-Leads, Body 11.50x7.50mm, Pitch 1.27mm, IPC Medium Density)
pins: 1 A1, 2 A2, 3 A3, 4 A4, 5 A5, 6 A6, 7 A7/D5, 8 A8/D4, 9 GND, 10 A9/D3, 11 A10/D2, 12 A11/D1, 13 A12/D0, 14 ~{TE}, 15 OSC2, 16 OSC1, 17 DOUT, 18 VCC

## PT2272
designator IC?
Remote Control Decoder
footprint DIP18 (DIP; 18 Leads; Row Spacing 7.62 mm; Pitch 2.54 mm)
footprint SO18 (SOIC, 18-Leads, Body 11.50x7.50mm, Pitch 1.27mm, IPC Medium Density)
pins: 1 A1, 2 A2, 3 A3, 4 A4, 5 A5, 6 A6, 7 A7, 8 A8, 9 GND, 10 A9/D3, 11 A10/D2, 12 A11/D1, 13 A12/D0, 14 DIN, 15 OSC2, 16 OSC1, 17 VT, 18 VCC

## PT2399
designator U?
Reverb
footprint DIP16
footprint SO16L (SOIC, 16-Leads, Body 10.30x7.50mm, Pitch 1.27mm, IPC Medium Density)
pins: 1 VCC, 2 VEF, 3 AGND, 4 DGND, 5 CLK, 6 VCO, 7 CC1, 8 CC0, 9 OP1-O, 10 OP1-I, 11 OP2-I, 12 OP2-O, 13 LPF2-I, 14 LPF2-O, 15 LPF1-O, 16 LPF1-I

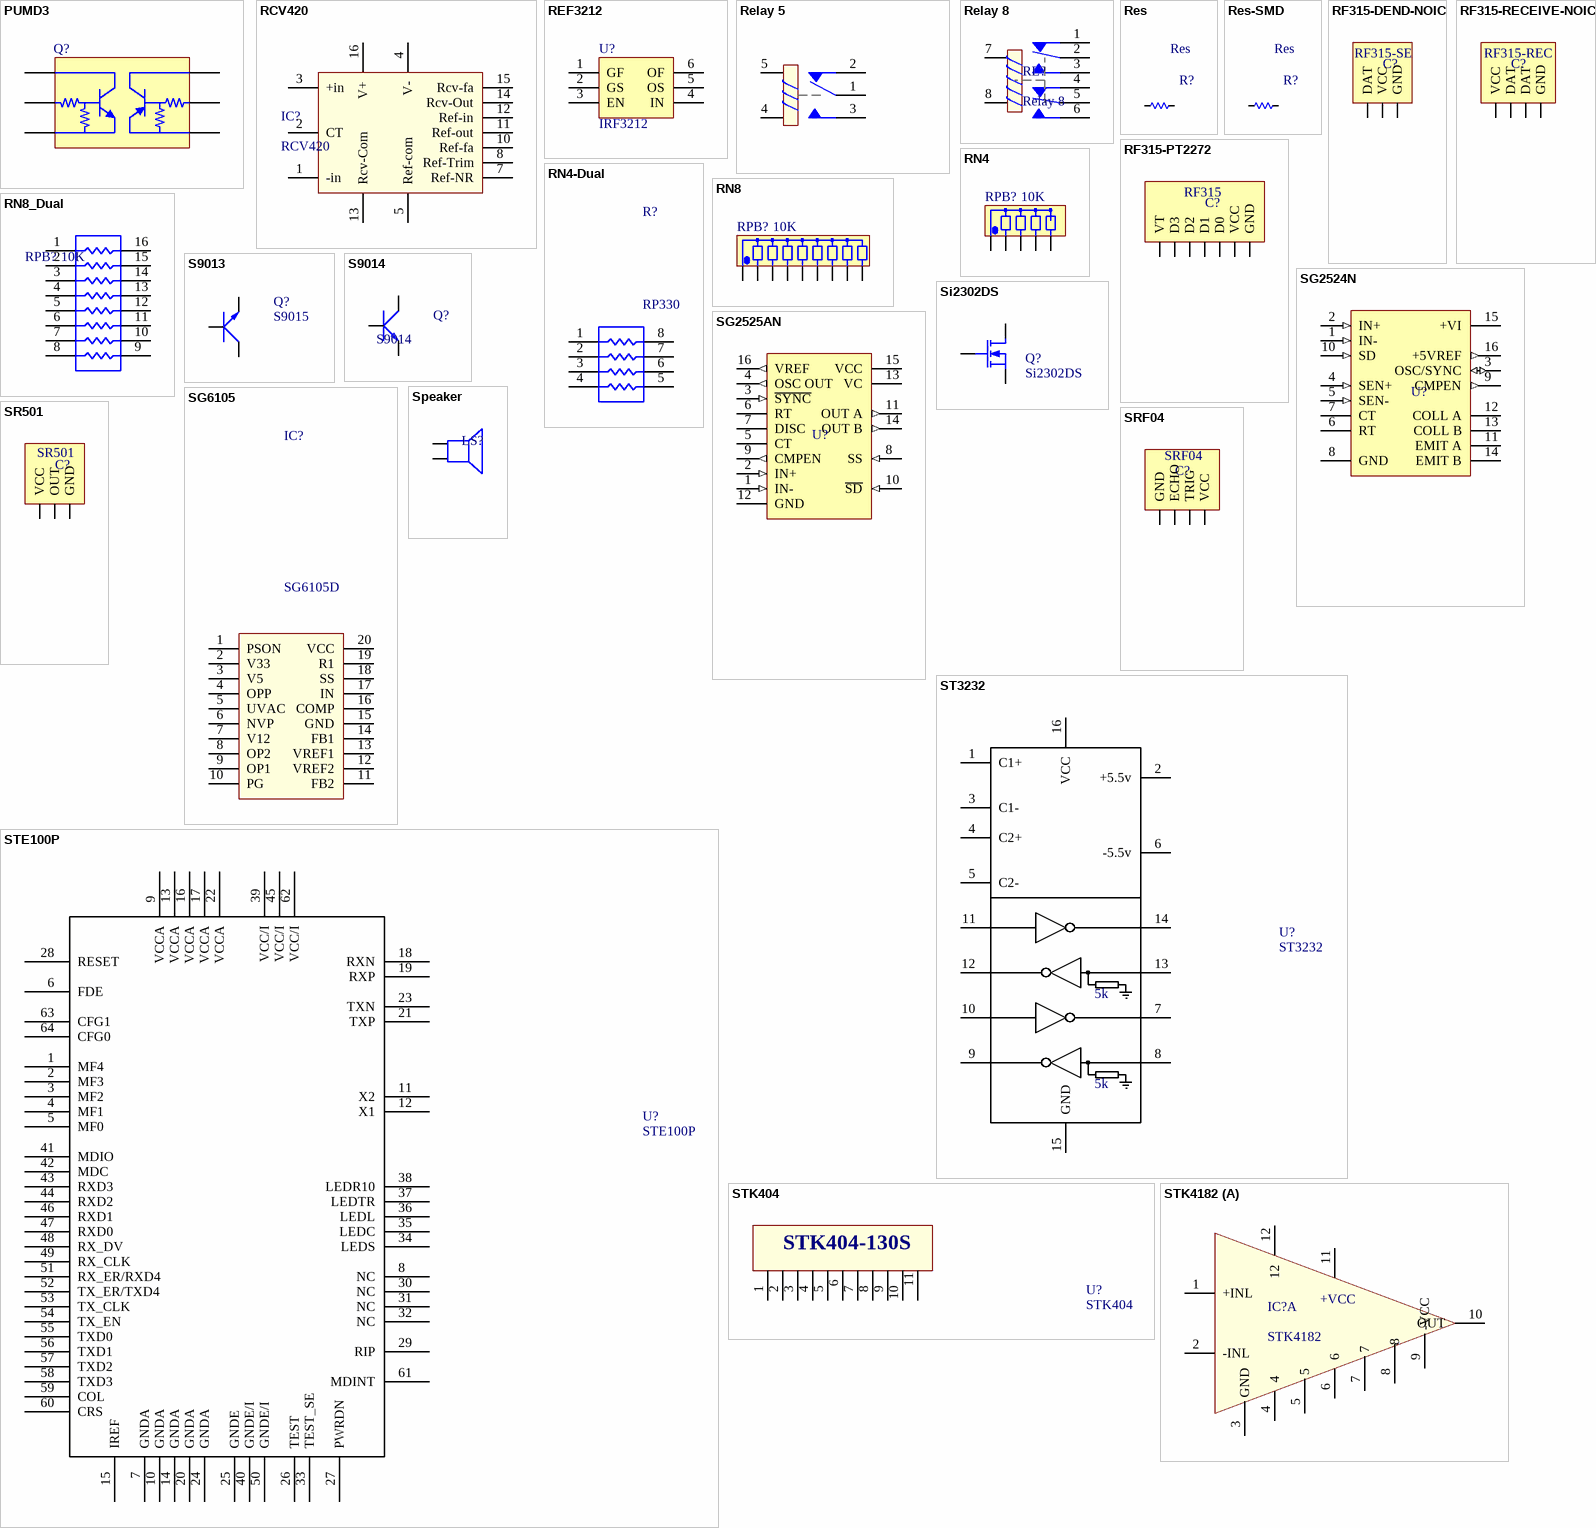
[diagram p39: symbols PUMD3 to STK4182]

## PUMD3
designator Q?
NPN/PNP Resistor-equipped Transistor; Published: 17-Sep-2003; LatestRevisionDate: 12-Dec-2006; LatestRevisionNote: IPC-7351 Footprint Added.; DatasheetVersion: 16-Feb-2001; PackageVersion: Feb-1997; PackageReference: SOT363; Publisher: Altium Limited; PackageDescription: 6-Pin SOT-363 Package 0.65 mm Pitch, 2.1 mm Lead Span; Code_JEITA: SC-88; Code_JEDEC: MO-203-AB; Code_IPC: SOT363-6; ComponentLink1Description: Manufacturer Link; ComponentLink1URL: http://www.semiconductors.philips.com/; ComponentLink2Description: Datasheet; ComponentLink2URL: http://www.semiconductors.philips.com/acrobat/datasheets/PEMD3_PIMD3_PUMD3_9.pdf
footprint SOT363 (SOT363, 6-Leads, Body 2x1.3mm, Pitch 0.65mm, Lead Span 2.1mm, IPC High Density)
pins: 1 E1, 2 B1, 3 C2, 4 E2, 5 B2, 6 C1

## RCV420
designator IC?
Precision 4mA to 20mA  CURRENT LOOP RECEIVER; Designed by: VanDungEvn; Value: RCV420
footprint DIP16
pins: 1 -in, 2 CT, 3 +in, 4 V-, 5 Ref-com, 7 Ref-NR, 8 Ref-Trim, 10 Ref-fa, 11 Ref-out, 12 Ref-in, 13 Rcv-Com, 14 Rcv-Out, 15 Rcv-fa, 16 V+

## REF3212
designator U?, comment IRF3212
Company: Texas Instrumention
footprint SOT23-6
pins: 1 GF, 2 GS, 3 EN, 4 IN, 5 OS, 6 OF

## Relay 5
designator RL?, comment Relay 10A/12V
Relay SPDT,10A - 12VDC 5 Pin; Value: Relay SPDT, 10A, 12V
footprint RELAY 5 (Reley DPDT, 8 pin, 1A, W400mil, L800mil,H 300mil)
pins: 1, 2, 3, 4, 5

## Relay 8
designator RL?
footprint RELAY 8
pins: 1, 2, 3, 4, 5, 6, 7, 8

## Res
designator R?
Manufacturer: Generic Components; Class: Passive; SubClass: R; Published: 08/06/2000; Publisher: Altium Hobart Technology Centre
footprint RES-1/2W
footprint RES-1/4W
footprint RES-1/4W-SMALL
footprint RES-1/4WD
footprint RES-1/8W
footprint RES-1/8W-SMALL (R 1/8W, 2 pin, 200mil)
footprint RES-1/8WD
footprint RES-1W
footprint RES-1W-LONG
footprint RES-1WD
footprint RES-2W (R2W, 2 pin, 700mil)
footprint RES-5W (R5W , 2 pin, 400 x 950mil)
footprint RES-5WD (R5W , 2 pin, 300 x 600 mil)
footprint RES-1/8W-SMALL-2 (R 1/8W, 2 pin, 200mil)
pins: 1, 2

## Res-SMD
designator R?, comment Res
Resistor; Manufacturer: Generic Components; Class: Passive; Published: 08/06/2000; Publisher: Altium Hobart Technology Centre
footprint RES-SMD-0101
footprint RES-SMD-0201
footprint RES-SMD-0603
footprint RES-SMD-0805
footprint RES-SMD-1206
footprint RES-SMD-1210 (Chip Capacitor, Body 3.2x2.5mm, IPC Medium Density)
footprint RES-SMD-1812 (Chip Capacitor, Body 3.2x2.5mm, IPC Medium Density)
footprint RES-SMD-2010 (Chip Capacitor, Body 3.2x2.5mm, IPC Medium Density)
footprint RES-SMD-2512 (Chip Capacitor, Body 3.2x2.5mm, IPC Medium Density)
footprint RES-SMD-0402
pins: 1, 2

## RF315-DEND-NOIC
designator C?
Manufacturer: W¨¹rth Elektronik eiSos GmbH; partNo: 613004143121; ComponentLink1 Description: Manufacturer; ComponentLink2 Description: Datasheet; NoPins: 04; Created Date: 29 March 2013; ComponentLink1URL: http://www.we-online.com; ComponentLink2URL: http://katalog.we-online.de/em/datasheet/6130xx143121.pdf; Created by: Karrer Zheng
footprint RF315-SEND-NOIC
pins: 1 DAT, 2 VCC, 3 GND
text: RF315-SE

## RF315-PT2272
designator C?
Manufacturer: W¨¹rth Elektronik eiSos GmbH; partNo: 613004143121; ComponentLink1 Description: Manufacturer; ComponentLink2 Description: Datasheet; NoPins: 04; Created Date: 29 March 2013; ComponentLink1URL: http://www.we-online.com; ComponentLink2URL: http://katalog.we-online.de/em/datasheet/6130xx143121.pdf; Created by: Karrer Zheng
footprint RF315-2272
pins: 1 VT, 2 D3, 3 D2, 4 D1, 5 D0, 6 VCC, 7 GND
text: RF315

## RF315-RECEIVE-NOIC
designator C?
Manufacturer: W¨¹rth Elektronik eiSos GmbH; partNo: 613004143121; ComponentLink1 Description: Manufacturer; ComponentLink2 Description: Datasheet; NoPins: 04; Created Date: 29 March 2013; ComponentLink1URL: http://www.we-online.com; ComponentLink2URL: http://katalog.we-online.de/em/datasheet/6130xx143121.pdf; Created by: Karrer Zheng
footprint RF315-RECEIVE-NOIC
pins: 1 VCC, 2 DAT, 3 DAT, 4 GND
text: RF315-REC

## RN4
designator RPB?, comment 10K
Resistor 4(Thanh); Value: Tro thanh 10K
footprint RN4 (R SIP5, 5 Pin)
pins: 1, 2, 3, 4, 5

## RN4-Dual
designator R?, comment RP330
footprint RN4-1206
footprint RN4-0805
footprint RN4-0402 (Resistor network 4 x 1005 (0402))
pins: 1, 2, 3, 4, 5, 6, 7, 8

## RN8
designator RPB?, comment 10K
Resistor 8 (Thanh); Value: Tro thanh 10K
footprint RN8 (R SIP8, 9 Pin)
pins: 1, 2, 3, 4, 5, 6, 7, 8, 9

## RN8_Dual
designator RPB?, comment 10K
Resistor 8 (Thanh); Value: Tro thanh 10K
footprint RN8_Dual (1206)
pins: 1, 2, 3, 4, 5, 6, 7, 8, 9, 10, 11, 12, 13, 14, 15, 16

## S9013
designator Q?, comment S9015
PNP 600mW, EBC; Value: C9015
footprint TO92-123 (TO-92)
footprint SOT23-231
footprint TO92-123 - 1 (TO-92)
footprint TO92-123 - 2 (TO-92)
footprint TO92-123 - 3 (TO-92)
pins: 1 E, 2 B, 3 C

## S9014
designator Q?
PNP 600mW, EBC; Value: C9014
footprint TO92-123 (TO-92)
footprint SOT23-231
footprint TO92-123 - 1 (TO-92)
footprint TO92-123 - 2 (TO-92)
footprint TO92-123 - 3 (TO-92)
pins: 1 E, 2 B, 3 C

## SG2524N
designator U?
Regulating Pulse Width Modulator; Published: 24-Aug-2001; LatestRevisionDate: 06-Jun-2005; LatestRevisionNote: Stylized 3D Model Added.; DatasheetVersion: Dec-1995; PackageVersion: Apr-1996; PackageReference: DIP16; Publisher: Altium Limited; PackageDescription: DIP; 16 Leads; Row Spacing 7.62 mm; Pitch 2.54 mm; ComponentLink1Description: Manufacturer Link; ComponentLink1URL: http://www.st.com/
footprint DIP16
footprint SO16 (SOIC, 16-Leads, Body 9.90x3.91mm, Pitch 1.27mm, IPC Medium Density)
pins: 1 IN- (in), 2 IN+ (in), 3 OSC/SYNC (io), 4 SEN+ (in), 5 SEN- (in), 6 RT, 7 CT, 8 GND (power), 9 CMPEN (out), 10 SD (in), 11 EMIT A, 12 COLL A, 13 COLL B, 14 EMIT B, 15 +VI (power), 16 +5VREF (out)

## SG2525AN
designator U?
Regulating Pulse Width Modulator; Published: 24-Aug-2001; LatestRevisionDate: 06-Jun-2005; LatestRevisionNote: Stylized 3D Model Added.; DatasheetVersion: Jul-1998; PackageVersion: Apr-1996; PackageReference: DIP16; Publisher: Altium Limited; PackageDescription: DIP; 16 Leads; Row Spacing 7.62 mm; Pitch 2.54 mm; ComponentLink1Description: Manufacturer Link; ComponentLink1URL: http://www.st.com/; ComponentLink2Description: Datasheet; ComponentLink2URL: http://www.st.com/stonline/products/literature/ds/4286/sg2525.pdf
footprint DIP16 (DIP; 16 Leads; Row Spacing 7.62 mm; Pitch 2.54 mm)
footprint SO16 (SOIC, 16-Leads, Body 9.90x3.91mm, Pitch 1.27mm, IPC Medium Density)
pins: 1 IN- (in), 2 IN+ (in), 3 ~{SYNC} (in), 4 OSC OUT (out), 5 CT, 6 RT, 7 DISC (oc), 8 SS (in), 9 CMPEN (out), 10 ~{SD} (in), 11 OUT A (out), 12 GND (power), 13 VC (power), 14 OUT B (out), 15 VCC (power), 16 VREF (out)

## SG6105
designator IC?, comment SG6105D
Value: 16F88; Value: DIP18
footprint DIP20 (DIP 20, 20 PIN, W 300mil, Pin to pin 100mil)
pins: 1 PSON, 2 V33, 3 V5, 4 OPP, 5 UVAC, 6 NVP, 7 V12, 8 OP2, 9 OP1, 10 PG, 11 FB2, 12 VREF2, 13 VREF1, 14 FB1, 15 GND, 16 COMP, 17 IN, 18 SS, 19 R1, 20 VCC

## Si2302DS
designator Q?
N-Channel MOSFET; Published: 8-Jun-2000; LatestRevisionDate: 17-Jul-2002; LatestRevisionNote: Re-released for DXP Platform.; PackageVersion: 1995/1996; PackageReference: E3; Publisher: Altium Limited; PackageDescription: TO, Flat Index; 3 In-Line, Axial Leads; Body Dia. 4.6mm; Lead Dia. 0.5 mm (max)
footprint SOT23-132
pins: 1 G, 2 S, 3 D

## Speaker
designator LS?
Loudspeaker; Published: 24-Mar-1999; LatestRevisionDate: 17-Jul-2002; LatestRevisionNote: Re-released for DXP Platform.; PackageReference: PIN2; Publisher: Altium Limited
footprint SPEAKER
footprint SPK (Speaker Chip)
footprint SP1 (Speaker Telphone on Broad)
pins: 1, 2

## SR501
designator C?
Manufacturer: W¨¹rth Elektronik eiSos GmbH; partNo: 613003143121; ComponentLink1 Description: Manufacturer; ComponentLink2 Description: Datasheet; NoPins: 03; Created Date: 29 March 2013; ComponentLink1URL: http://www.we-online.com; ComponentLink2URL: http://katalog.we-online.de/em/datasheet/6130xx143121.pdf; Created by: Karrer Zheng
footprint SR501
pins: 1 VCC, 2 OUT, 3 GND

## SRF04
designator C?
Manufacturer: W¨¹rth Elektronik eiSos GmbH; partNo: 613004143121; ComponentLink1 Description: Manufacturer; ComponentLink2 Description: Datasheet; NoPins: 04; Created Date: 29 March 2013; ComponentLink1URL: http://www.we-online.com; ComponentLink2URL: http://katalog.we-online.de/em/datasheet/6130xx143121.pdf; Created by: Karrer Zheng
footprint SRF04
pins: 1 GND, 2 ECHO, 3 TRIG, 4 VCC

## ST3232
designator U?
IC, RS-232 Transceiver, SO-16; Manufacturer Part Number: ST3232EBDR; Manufacturer: STMicroelectronics; Protocol: RS232; Number of Drivers/Receivers: 2/2; Voltage - Supply: 3 V ~ 5.5 V; NI?: *; O?: *; Section:: *; Supplier 1: Digi-Key; Supplier Part Number 1: 497-6996-2-ND; Packaging: Tape & Reel (TR); Package / Case: 16-SOIC (3.9mm Width); Supplier: Digi-Key; Category: Integrated Circuits (ICs); Type: Transceiver; RoHS: RoHS Compliant; Supplier Part Number: 497-6996-2-ND
footprint SO16L (SOIC, 16-Leads, Body 10.30x7.50mm, Pitch 1.27mm, IPC Medium Density)
footprint DIP16
footprint SO16 (SOIC, 16-Leads, Body 9.90x3.91mm, Pitch 1.27mm, IPC Medium Density)
footprint TSSOP16 (TSSOP, 16-Leads, Body 5.10x4.40mm, Pitch 0.65mm, IPC High Density)
pins: 1 C1+, 2 +5.5v, 3 C1-, 4 C2+, 5 C2-, 6 -5.5v, 7, 8, 9, 10, 11, 12, 13, 14, 15 GND, 16 VCC
text: 5k

## STE100P
designator U?
ETHERNET PHY; Manufacturer Part Number: STE100STR; Manufacturer: STMicroelectronics; Number of Drivers/Receivers: 1/1; Voltage - Supply: 3.15 V ~ 3.45 V; Protocol: IEEE 802; Supplier 1: Digi-Key; Supplier Part Number 1: STE100STR-ND; Package / Case: 64-TQFP, 64-VQFP; Packaging: Tape & Reel (TR); RoHS: RoHS Compliant; Category: Integrated Circuits (ICs); Supplier: Digi-Key; Type: Transceiver; Supplier Part Number: STE100STR-ND
footprint TQFP64 (TQFP, 64-Leads, Body 10.00x10.00mm, Pitch 0.50mm, IPC High Density)
pins: 1 MF4, 2 MF3, 3 MF2, 4 MF1, 5 MF0, 6 FDE, 7 GNDA, 8 NC, 9 VCCA, 10 GNDA, 11 X2, 12 X1, 13 VCCA, 14 GNDA, 15 IREF, 16 VCCA, 17 VCCA, 18 RXN, 19 RXP, 20 GNDA, 21 TXP, 22 VCCA, 23 TXN, 24 GNDA, 25 GNDE, 26 TEST, 27 PWRDN, 28 RESET, 29 RIP, 30 NC, 31 NC, 32 NC, 33 TEST_SE, 34 LEDS, 35 LEDC, 36 LEDL, 37 LEDTR, 38 LEDR10, 39 VCC/I, 40 GNDE/I, 41 MDIO, 42 MDC, 43 RXD3, 44 RXD2, 45 VCC/I, 46 RXD1, 47 RXD0, 48 RX_DV, 49 RX_CLK, 50 GNDE/I, 51 RX_ER/RXD4, 52 TX_ER/TXD4, 53 TX_CLK, 54 TX_EN, 55 TXD0, 56 TXD1, 57 TXD2, 58 TXD3, 59 COL, 60 CRS, 61 MDINT, 62 VCC/I, 63 CFG1, 64 CFG0

## STK404
designator U?
Manufacturer: FTDI, Future Technology Devices International Ltd; Manufacturer Part Number: FT232RL R; Number of Channels: 8; Voltage: 3.3 V ~ 5.25 V; FIFO's: 256 Byte; Supplier 1: Digi-Key; Supplier Part Number 1: 768-1007-2-ND; RoHS: RoHS Compliant; Features: Serial Interface; Package / Case: 28-SSOP; Supplier: Digi-Key; Packaging: Tape & Reel (TR); Supplier Part Number: 768-1007-2-ND; Category: Integrated Circuits (ICs)
footprint STK404
pins: 1, 2, 3, 4, 5, 6, 7, 8, 9, 10, 11
text: STK404-130S

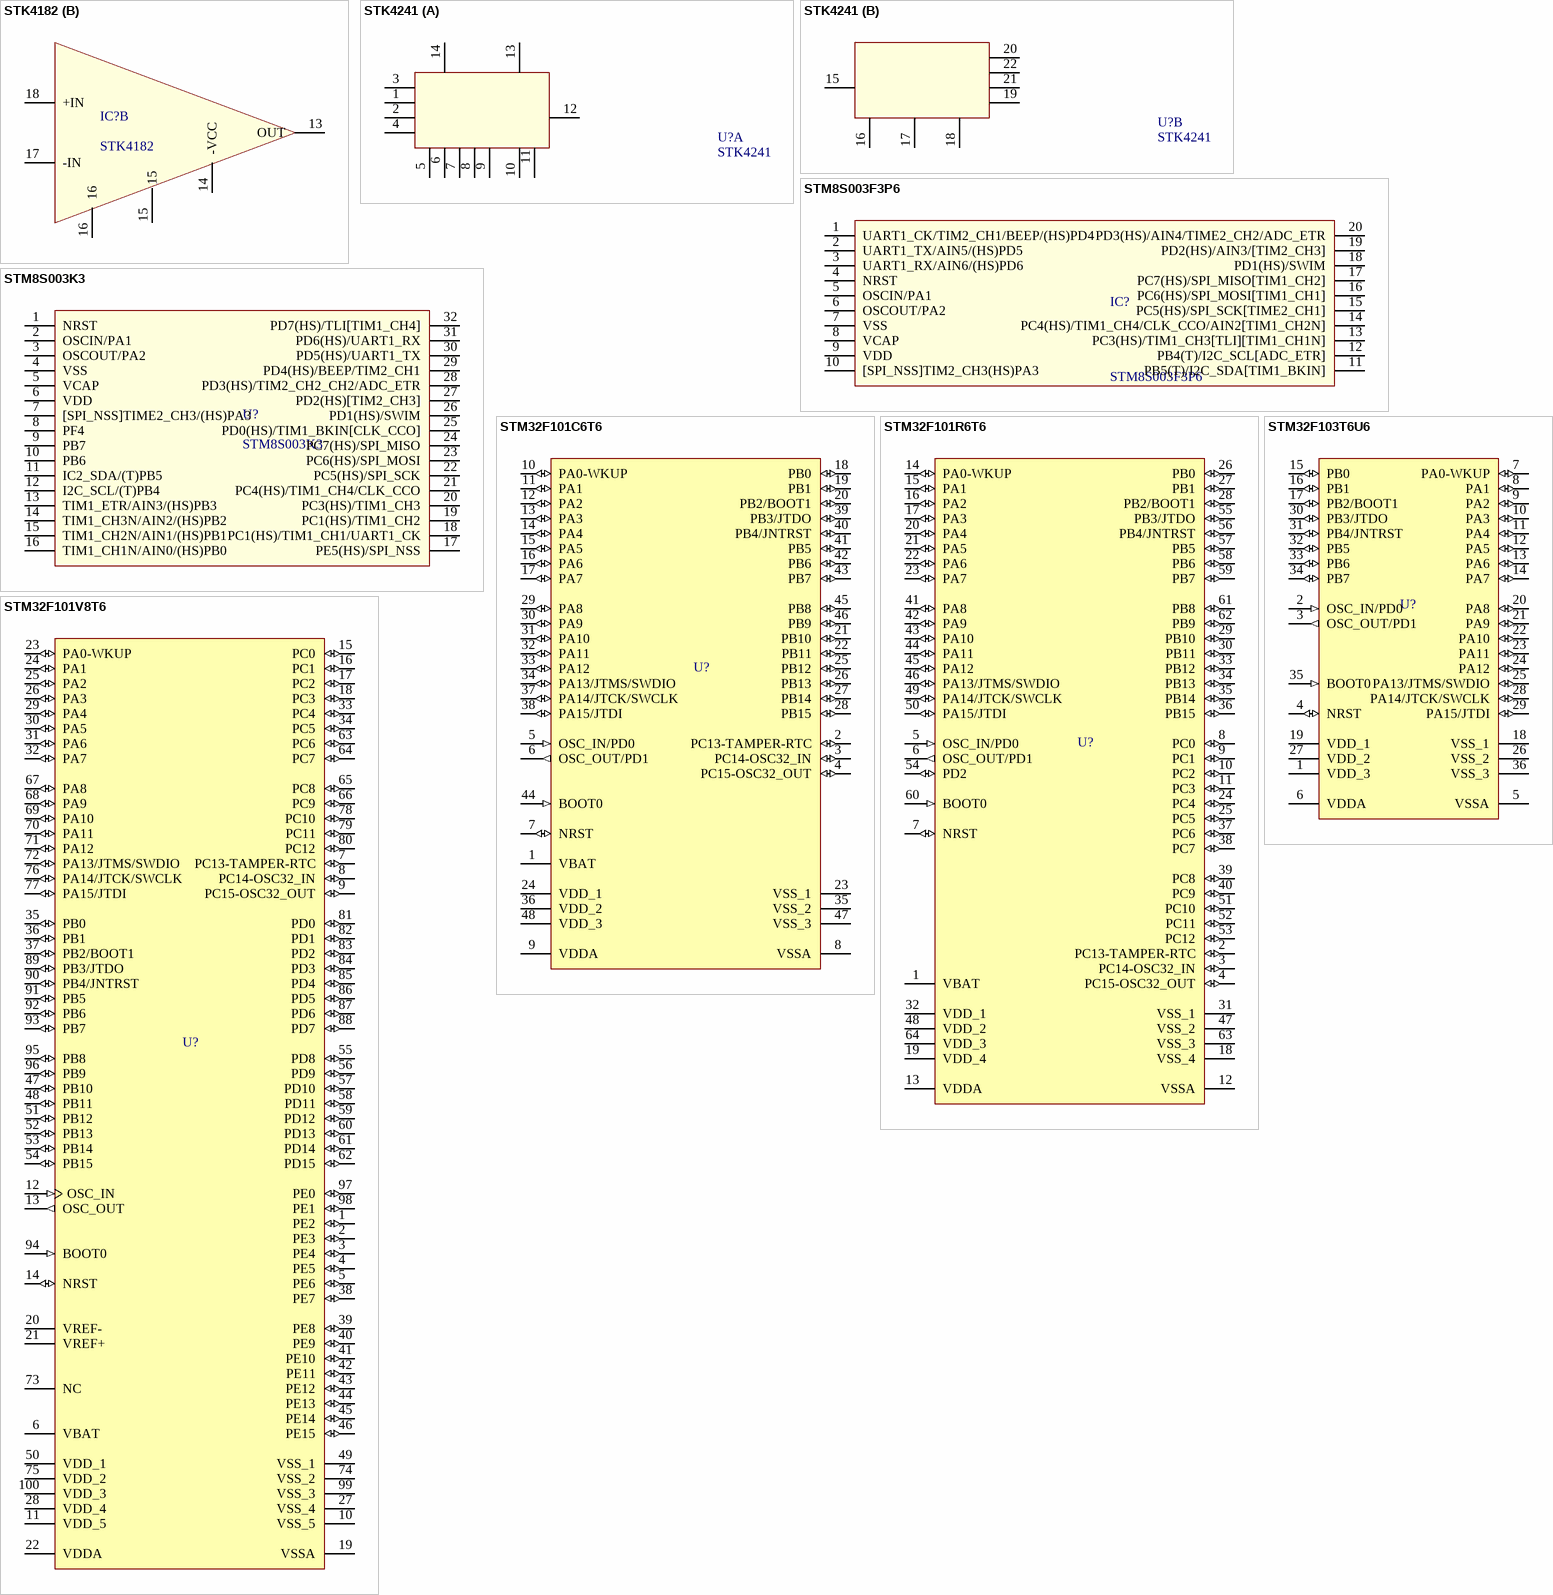
[diagram p40: symbols STK4182 to STM32F103T6U6]

## STK4182
designator IC?
AF Power Amplifier 2x10W
footprint STK4182 (Pin to pin 100mil, 18 pin)
part A pins: 1 +INL, 2 -INL, 3 GND, 4, 5, 6, 7, 8, 9 -VCC, 10 OUT, 11 +VCC, 12
part B pins: 13 OUT, 14 -VCC, 15, 16, 17 -IN, 18 +IN

## STK4241
designator U?
Manufacturer: FTDI, Future Technology Devices International Ltd; Manufacturer Part Number: FT232RL R; Number of Channels: 8; Voltage: 3.3 V ~ 5.25 V; FIFO's: 256 Byte; Supplier 1: Digi-Key; Supplier Part Number 1: 768-1007-2-ND; RoHS: RoHS Compliant; Features: Serial Interface; Package / Case: 28-SSOP; Supplier: Digi-Key; Packaging: Tape & Reel (TR); Supplier Part Number: 768-1007-2-ND; Category: Integrated Circuits (ICs)
footprint STK4241
part A pins: 1, 2, 3, 4, 5, 6, 7, 8, 9, 10, 11, 12, 13, 14
part B pins: 15, 16, 17, 18, 19, 20, 21, 22

## STM8S003F3P6
designator IC?
MCU 8BIT  8KB FLASH TSSOP-20; Value: 24Cxx; Value: DIP 8; Copyright by: VanDungEvn
footprint TSSOP20
pins: 1 UART1_CK/TIM2_CH1/BEEP/(HS)PD4, 2 UART1_TX/AIN5/(HS)PD5, 3 UART1_RX/AIN6/(HS)PD6, 4 NRST, 5 OSCIN/PA1, 6 OSCOUT/PA2, 7 VSS, 8 VCAP, 9 VDD, 10 [SPI_NSS]TIM2_CH3(HS)PA3, 11 PB5(T)/I2C_SDA[TIM1_BKIN], 12 PB4(T)/I2C_SCL[ADC_ETR], 13 PC3(HS)/TIM1_CH3[TLI][TIM1_CH1N], 14 PC4(HS)/TIM1_CH4/CLK_CCO/AIN2[TIM1_CH2N], 15 PC5(HS)/SPI_SCK[TIME2_CH1], 16 PC6(HS)/SPI_MOSI[TIM1_CH1], 17 PC7(HS)/SPI_MISO[TIM1_CH2], 18 PD1(HS)/SWIM, 19 PD2(HS)/AIN3/[TIM2_CH3], 20 PD3(HS)/AIN4/TIME2_CH2/ADC_ETR

## STM8S003K3
designator U?
MCU 8BIT  8KB FLASH LQFP-32
footprint TQFP32 (Thin QFP, 32-Leads, Body 9x9mm, Pitch 0.8mm, IPC Low Density)
pins: 1 NRST, 2 OSCIN/PA1, 3 OSCOUT/PA2, 4 VSS, 5 VCAP, 6 VDD, 7 [SPI_NSS]TIME2_CH3/(HS)PA3, 8 PF4, 9 PB7, 10 PB6, 11 IC2_SDA/(T)PB5, 12 I2C_SCL/(T)PB4, 13 TIM1_ETR/AIN3/(HS)PB3, 14 TIM1_CH3N/AIN2/(HS)PB2, 15 TIM1_CH2N/AIN1/(HS)PB1, 16 TIM1_CH1N/AIN0/(HS)PB0, 17 PE5(HS)/SPI_NSS, 18 PC1(HS)/TIM1_CH1/UART1_CK, 19 PC1(HS)/TIM1_CH2, 20 PC3(HS)/TIM1_CH3, 21 PC4(HS)/TIM1_CH4/CLK_CCO, 22 PC5(HS)/SPI_SCK, 23 PC6(HS)/SPI_MOSI, 24 PC7(HS)/SPI_MISO, 25 PD0(HS)/TIM1_BKIN[CLK_CCO], 26 PD1(HS)/SWIM, 27 PD2(HS)[TIM2_CH3], 28 PD3(HS)/TIM2_CH2_CH2/ADC_ETR, 29 PD4(HS)/BEEP/TIM2_CH1, 30 PD5(HS)/UART1_TX, 31 PD6(HS)/UART1_RX, 32 PD7(HS)/TLI[TIM1_CH4]

## STM32F101C6T6
designator U?
STM32 ARM-based 32-bit MCU with 32 Kbytes Flash, 48-pin LQFP, Industrial Temperature; Published: 30-May-2008; DatasheetVersion: rev6, Mar-2008; PackageVersion: Mar-2008; PackageReference: LQFP48; Publisher: Altium Limited; PackageDescription: 48-Pin Low-Profile Quad Flat Pack, 7 x 7 mm Body, 0.5 mm Pitch (LQFP48); ComponentLink1Description: Manufacturer Link; ComponentLink1URL: www.st.com/stm32; ComponentLink2Description: Datasheet; ComponentLink2URL: http://www.st.com/stonline/products/literature/ds/13586.pdf
footprint TQFP48 (TQFP, 48-Leads, Body 7.00x7.00mm, Pitch 0.50mm, IPC High Density)
pins: 1 VBAT (power), 2 PC13-TAMPER-RTC (io), 3 PC14-OSC32_IN (io), 4 PC15-OSC32_OUT (io), 5 OSC_IN/PD0 (in), 6 OSC_OUT/PD1 (out), 7 NRST (io), 8 VSSA (power), 9 VDDA (power), 10 PA0-WKUP (io), 11 PA1 (io), 12 PA2 (io), 13 PA3 (io), 14 PA4 (io), 15 PA5 (io), 16 PA6 (io), 17 PA7 (io), 18 PB0 (io), 19 PB1 (io), 20 PB2/BOOT1 (io), 21 PB10 (io), 22 PB11 (io), 23 VSS_1 (power), 24 VDD_1 (power), 25 PB12 (io), 26 PB13 (io), 27 PB14 (io), 28 PB15 (io), 29 PA8 (io), 30 PA9 (io), 31 PA10 (io), 32 PA11 (io), 33 PA12 (io), 34 PA13/JTMS/SWDIO (io), 35 VSS_2 (power), 36 VDD_2 (power), 37 PA14/JTCK/SWCLK (io), 38 PA15/JTDI (io), 39 PB3/JTDO (io), 40 PB4/JNTRST (io), 41 PB5 (io), 42 PB6 (io), 43 PB7 (io), 44 BOOT0 (in), 45 PB8 (io), 46 PB9 (io), 47 VSS_3 (power), 48 VDD_3 (power)

## STM32F101R6T6
designator U?
STM32 ARM-based 32-bit MCU with 32 Kbytes Flash, 64-pin LQFP, Industrial Temperature; Published: 30-May-2008; DatasheetVersion: rev6, Mar-2008; PackageVersion: Mar-2008; PackageReference: LQFP64; Publisher: Altium Limited; PackageDescription: 64-Pin Low-Profile Quad Flat Pack, 10 x 10 mm Body, 0.5 mm Pitch (LQFP64); ComponentLink1Description: Manufacturer Link; ComponentLink1URL: www.st.com/stm32; ComponentLink2Description: Datasheet; ComponentLink2URL: http://www.st.com/stonline/products/literature/ds/13586.pdf
footprint TQFP64 (TQFP, 64-Leads, Body 10.00x10.00mm, Pitch 0.50mm, IPC High Density)
pins: 1 VBAT (power), 2 PC13-TAMPER-RTC (io), 3 PC14-OSC32_IN (io), 4 PC15-OSC32_OUT (io), 5 OSC_IN/PD0 (in), 6 OSC_OUT/PD1 (out), 7 NRST (io), 8 PC0 (io), 9 PC1 (io), 10 PC2 (io), 11 PC3 (io), 12 VSSA (power), 13 VDDA (power), 14 PA0-WKUP (io), 15 PA1 (io), 16 PA2 (io), 17 PA3 (io), 18 VSS_4 (power), 19 VDD_4 (power), 20 PA4 (io), 21 PA5 (io), 22 PA6 (io), 23 PA7 (io), 24 PC4 (io), 25 PC5 (io), 26 PB0 (io), 27 PB1 (io), 28 PB2/BOOT1 (io), 29 PB10 (io), 30 PB11 (io), 31 VSS_1 (power), 32 VDD_1 (power), 33 PB12 (io), 34 PB13 (io), 35 PB14 (io), 36 PB15 (io), 37 PC6 (io), 38 PC7 (io), 39 PC8 (io), 40 PC9 (io), 41 PA8 (io), 42 PA9 (io), 43 PA10 (io), 44 PA11 (io), 45 PA12 (io), 46 PA13/JTMS/SWDIO (io), 47 VSS_2 (power), 48 VDD_2 (power), 49 PA14/JTCK/SWCLK (io), 50 PA15/JTDI (io), 51 PC10 (io), 52 PC11 (io), 53 PC12 (io), 54 PD2 (io), 55 PB3/JTDO (io), 56 PB4/JNTRST (io), 57 PB5 (io), 58 PB6 (io), 59 PB7 (io), 60 BOOT0 (in), 61 PB8 (io), 62 PB9 (io), 63 VSS_3 (power), 64 VDD_3 (power)

## STM32F101V8T6
designator U?
STM32 ARM-based 32-bit MCU with 64 Kbytes Flash, 100-pin LQFP, Industrial Temperature; Published: 30-May-2008; DatasheetVersion: rev6, Mar-2008; PackageVersion: Mar-2008; PackageReference: LQFP100; Publisher: Altium Limited; PackageDescription: 100-Pin Low-Profile Quad Flat Pack, 14 x 14 mm Body, 0.5 mm Pitch (LQFP100); ComponentLink1Description: Manufacturer Link; ComponentLink1URL: www.st.com/stm32; ComponentLink2Description: Datasheet; ComponentLink2URL: http://www.st.com/stonline/products/literature/ds/13586.pdf
footprint TQFP100L (TQFP, 100-Leads, Body 14.00x14.00mm, Pitch 0.50mm, IPC High Density)
pins: 1 PE2 (io), 2 PE3 (io), 3 PE4 (io), 4 PE5 (io), 5 PE6 (io), 6 VBAT (power), 7 PC13-TAMPER-RTC (io), 8 PC14-OSC32_IN (io), 9 PC15-OSC32_OUT (io), 10 VSS_5 (power), 11 VDD_5 (power), 12 OSC_IN (in), 13 OSC_OUT (out), 14 NRST (io), 15 PC0 (io), 16 PC1 (io), 17 PC2 (io), 18 PC3 (io), 19 VSSA (power), 20 VREF- (power), 21 VREF+ (power), 22 VDDA (power), 23 PA0-WKUP (io), 24 PA1 (io), 25 PA2 (io), 26 PA3 (io), 27 VSS_4 (power), 28 VDD_4 (power), 29 PA4 (io), 30 PA5 (io), 31 PA6 (io), 32 PA7 (io), 33 PC4 (io), 34 PC5 (io), 35 PB0 (io), 36 PB1 (io), 37 PB2/BOOT1 (io), 38 PE7 (io), 39 PE8 (io), 40 PE9 (io), 41 PE10 (io), 42 PE11 (io), 43 PE12 (io), 44 PE13 (io), 45 PE14 (io), 46 PE15 (io), 47 PB10 (io), 48 PB11 (io), 49 VSS_1 (power), 50 VDD_1 (power), 51 PB12 (io), 52 PB13 (io), 53 PB14 (io), 54 PB15 (io), 55 PD8 (io), 56 PD9 (io), 57 PD10 (io), 58 PD11 (io), 59 PD12 (io), 60 PD13 (io), 61 PD14 (io), 62 PD15 (io), 63 PC6 (io), 64 PC7 (io), 65 PC8 (io), 66 PC9 (io), 67 PA8 (io), 68 PA9 (io), 69 PA10 (io), 70 PA11 (io), 71 PA12 (io), 72 PA13/JTMS/SWDIO (io), 73 NC, 74 VSS_2 (power), 75 VDD_2 (power), 76 PA14/JTCK/SWCLK (io), 77 PA15/JTDI (io), 78 PC10 (io), 79 PC11 (io), 80 PC12 (io), 81 PD0 (io), 82 PD1 (io), 83 PD2 (io), 84 PD3 (io), 85 PD4 (io), 86 PD5 (io), 87 PD6 (io), 88 PD7 (io), 89 PB3/JTDO (io), 90 PB4/JNTRST (io), 91 PB5 (io), 92 PB6 (io), 93 PB7 (io), 94 BOOT0 (in), 95 PB8 (io), 96 PB9 (io), 97 PE0 (io), 98 PE1 (io), 99 VSS_3 (power), 100 VDD_3 (power)

## STM32F103T6U6
designator U?
STM32 ARM-based 32-bit MCU with 32 Kbytes Flash, 36-pin VFQFPN, Industrial Temperature; Published: 30-May-2008; DatasheetVersion: rev6, Mar-2008; PackageVersion: Mar-2008; PackageReference: VFQN36; Publisher: Altium Limited; PackageDescription: 36-Pin Quad Flat No-Lead, 6 x 6 X 1.0 mm Body, 0.5 mm Pitch, Exposed Pad (VFQN36); ComponentLink1Description: Manufacturer Link; ComponentLink1URL: www.st.com/stm32; ComponentLink2Description: Datasheet; ComponentLink2URL: http://www.st.com/stonline/products/literature/ds/13587.pdf
footprint QFN36 (QFN, 36-Leads, Body 6x6mm, Pitch 0.5mm, IPC High Density)
pins: 1 VDD_3 (power), 2 OSC_IN/PD0 (in), 3 OSC_OUT/PD1 (out), 4 NRST (io), 5 VSSA (power), 6 VDDA (power), 7 PA0-WKUP (io), 8 PA1 (io), 9 PA2 (io), 10 PA3 (io), 11 PA4 (io), 12 PA5 (io), 13 PA6 (io), 14 PA7 (io), 15 PB0 (io), 16 PB1 (io), 17 PB2/BOOT1 (io), 18 VSS_1 (power), 19 VDD_1 (power), 20 PA8 (io), 21 PA9 (io), 22 PA10 (io), 23 PA11 (io), 24 PA12 (io), 25 PA13/JTMS/SWDIO (io), 26 VSS_2 (power), 27 VDD_2 (power), 28 PA14/JTCK/SWCLK (io), 29 PA15/JTDI (io), 30 PB3/JTDO (io), 31 PB4/JNTRST (io), 32 PB5 (io), 33 PB6 (io), 34 PB7 (io), 35 BOOT0 (in), 36 VSS_3 (power)

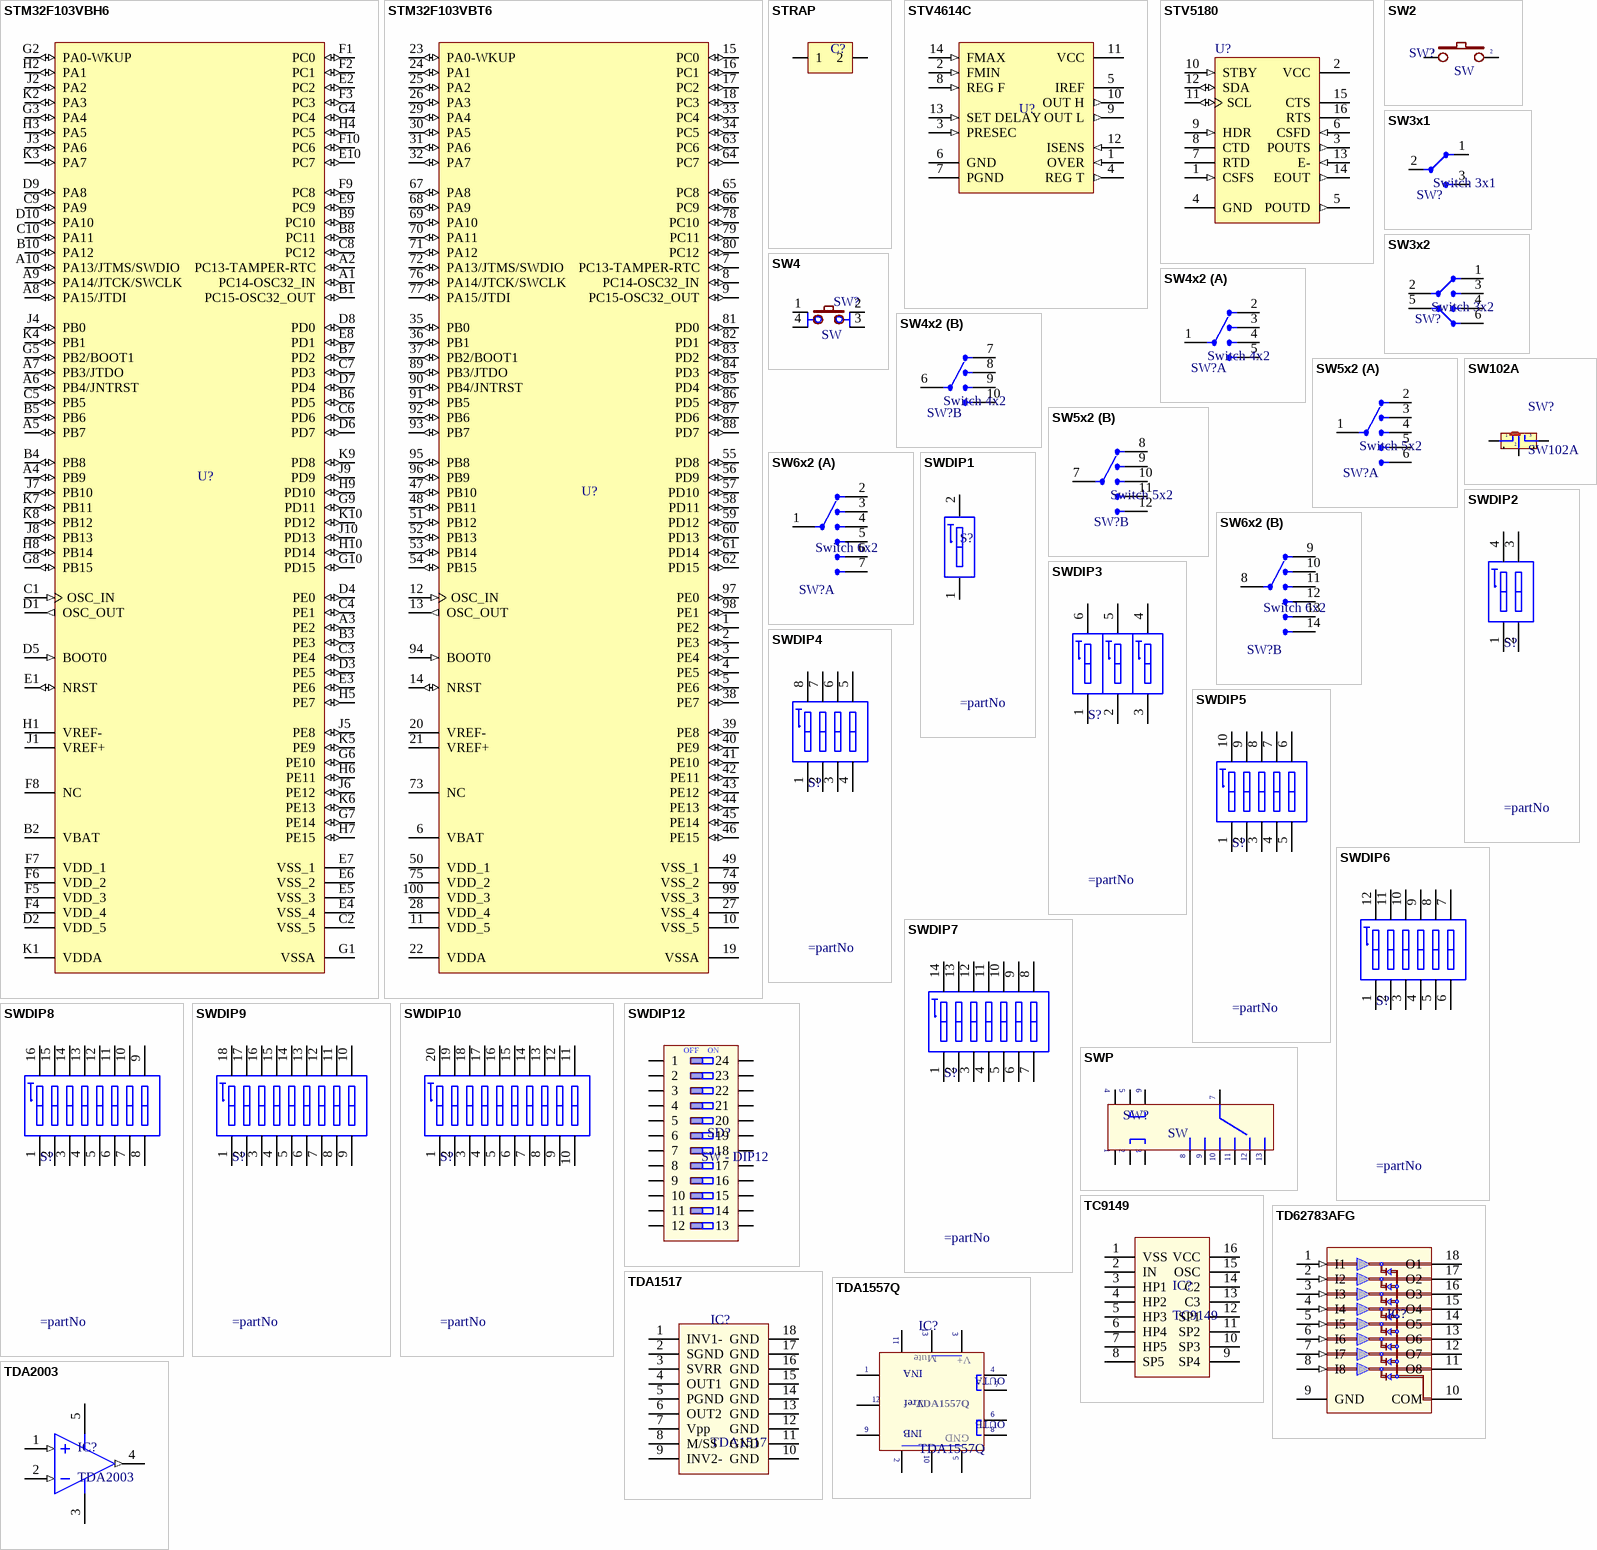
[diagram p41: symbols STM32F103VBH6 to TDA2003]

## STM32F103VBH6
designator U?
STM32 ARM-based 32-bit MCU with 128 Kbytes Flash, 100-pin BGA, Industrial Temperature; Published: 30-May-2008; DatasheetVersion: rev6, Mar-2008; PackageVersion: Mar-2008; PackageReference: LFBGA100; Publisher: Altium Limited; PackageDescription: 100-Ball Low Profile Fine Pitch BGA, 10 x 10 x 1.7 mm Body, 0.8 mm Pitch (LFBGA100); ComponentLink1Description: Manufacturer Link; ComponentLink1URL: www.st.com/stm32; ComponentLink2Description: Datasheet; ComponentLink2URL: http://www.st.com/stonline/products/literature/ds/13587.pdf
footprint BGA100 (BGA, 100-Leads, Body 9x9mm, Pitch 0.8mm)
pins: A1 PC14-OSC32_IN (io), A2 PC13-TAMPER-RTC (io), A3 PE2 (io), A4 PB9 (io), A5 PB7 (io), A6 PB4/JNTRST (io), A7 PB3/JTDO (io), A8 PA15/JTDI (io), A9 PA14/JTCK/SWCLK (io), A10 PA13/JTMS/SWDIO (io), B1 PC15-OSC32_OUT (io), B2 VBAT (power), B3 PE3 (io), B4 PB8 (io), B5 PB6 (io), B6 PD5 (io), B7 PD2 (io), B8 PC11 (io), B9 PC10 (io), B10 PA12 (io), C1 OSC_IN (in), C2 VSS_5 (power), C3 PE4 (io), C4 PE1 (io), C5 PB5 (io), C6 PD6 (io), C7 PD3 (io), C8 PC12 (io), C9 PA9 (io), C10 PA11 (io), D1 OSC_OUT (out), D2 VDD_5 (power), D3 PE5 (io), D4 PE0 (io), D5 BOOT0 (in), D6 PD7 (io), D7 PD4 (io), D8 PD0 (io), D9 PA8 (io), D10 PA10 (io), E1 NRST (io), E2 PC2 (io), E3 PE6 (io), E4 VSS_4 (power), E5 VSS_3 (power), E6 VSS_2 (power), E7 VSS_1 (power), E8 PD1 (io), E9 PC9 (io), E10 PC7 (io), F1 PC0 (io), F2 PC1 (io), F3 PC3 (io), F4 VDD_4 (power), F5 VDD_3 (power), F6 VDD_2 (power), F7 VDD_1 (power), F8 NC, F9 PC8 (io), F10 PC6 (io), G1 VSSA (power), G2 PA0-WKUP (io), G3 PA4 (io), G4 PC4 (io), G5 PB2/BOOT1 (io), G6 PE10 (io), G7 PE14 (io), G8 PB15 (io), G9 PD11 (io), G10 PD15 (io), H1 VREF- (power), H2 PA1 (io), H3 PA5 (io), H4 PC5 (io), H5 PE7 (io), H6 PE11 (io), H7 PE15 (io), H8 PB14 (io), H9 PD10 (io), H10 PD14 (io), J1 VREF+ (power), J2 PA2 (io), J3 PA6 (io), J4 PB0 (io), J5 PE8 (io), J6 PE12 (io), J7 PB10 (io), J8 PB13 (io), J9 PD9 (io), J10 PD13 (io), K1 VDDA (power), K2 PA3 (io), K3 PA7 (io), K4 PB1 (io), K5 PE9 (io), K6 PE13 (io), K7 PB11 (io), K8 PB12 (io), K9 PD8 (io), K10 PD12 (io)